# Altium integrated library Xilinx CoolRunner II.IntLib: 198 symbols (part 1 of 13)
Pins are listed as number, name and electrical type; pins without a type are passive.

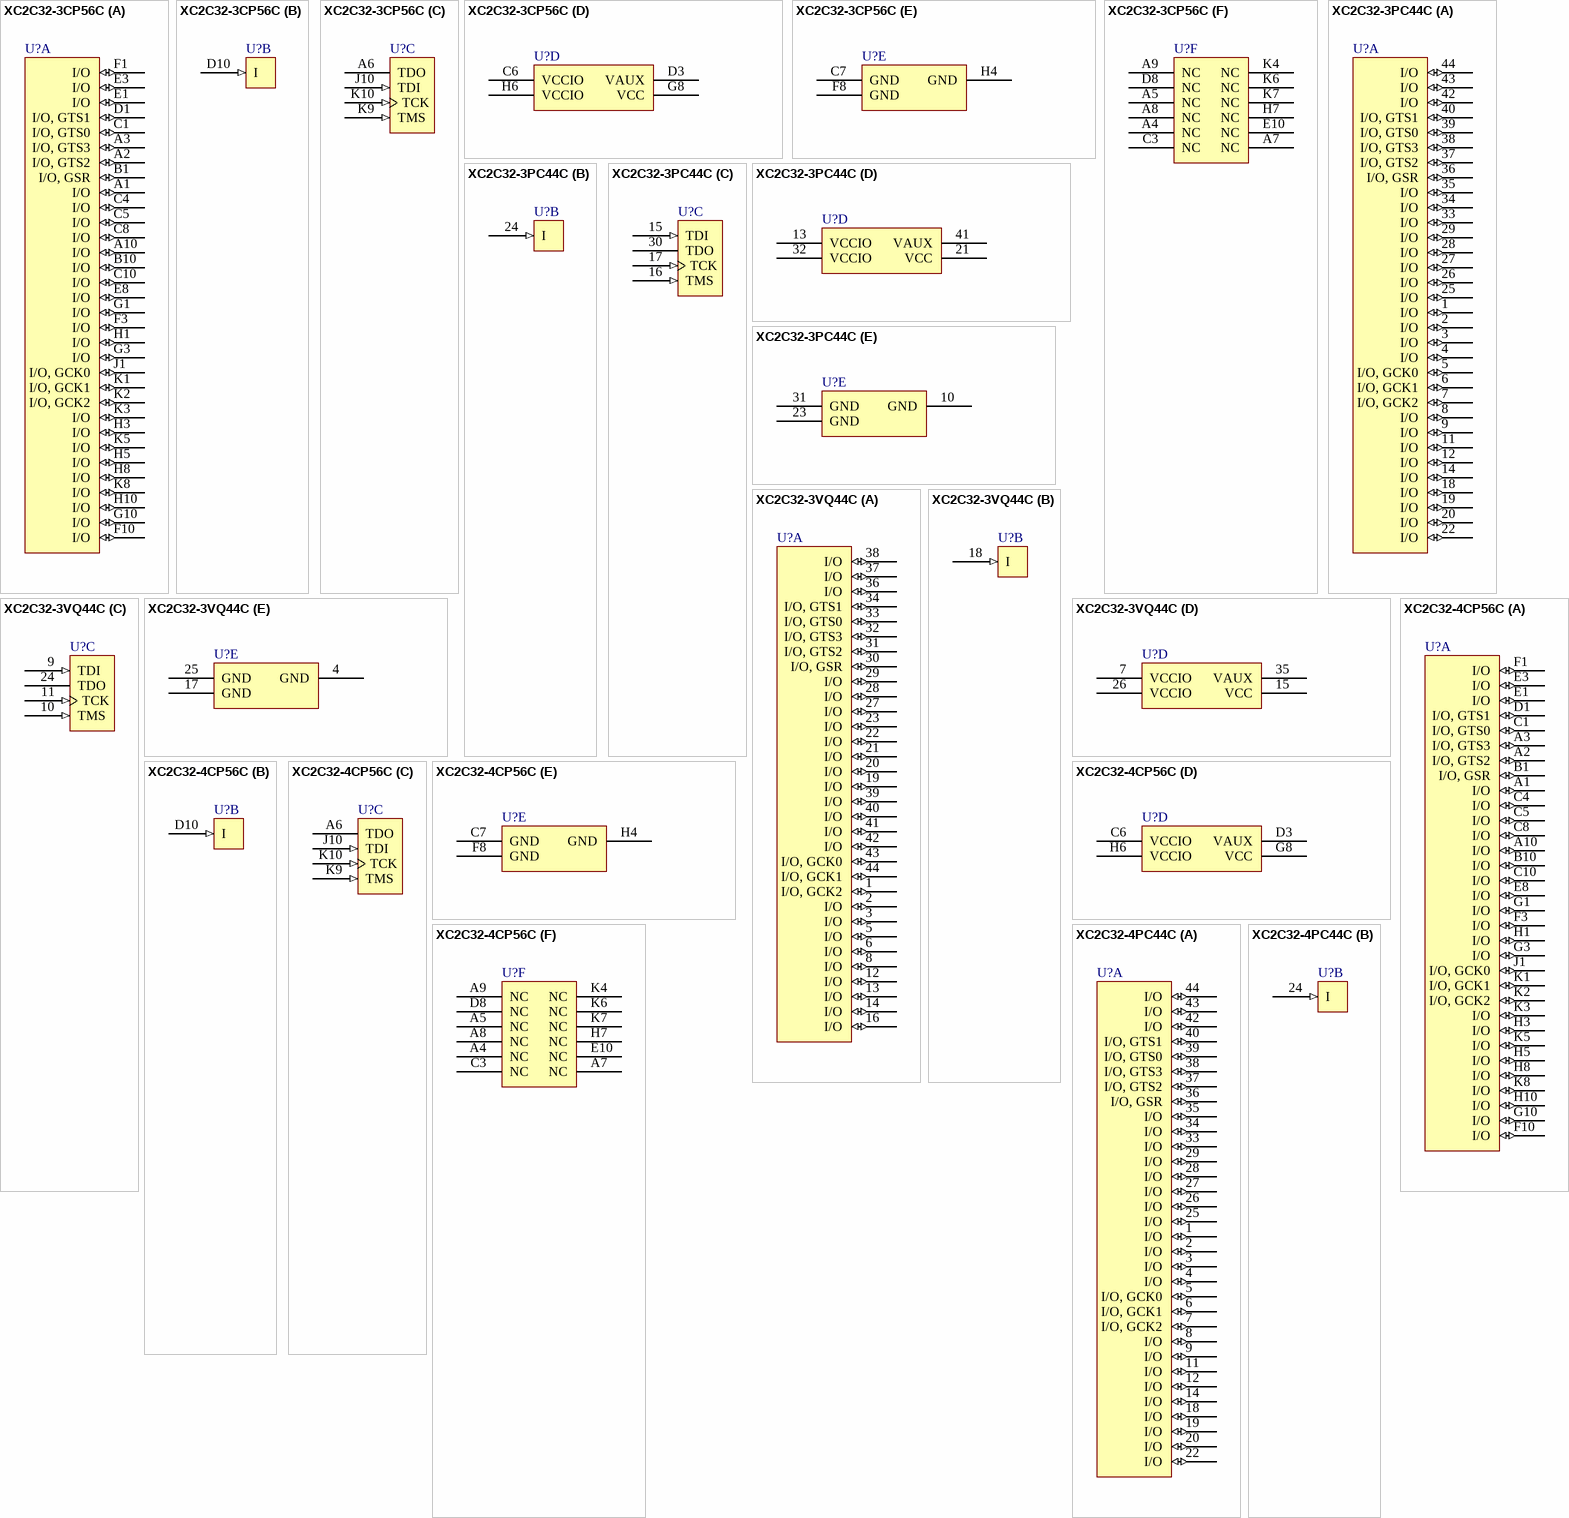
[diagram p0: symbols XC2C32-3CP56C to XC2C32-4PC44C]

## XC2C32-3CP56C
designator U?
CoolRunner-II, 1.8V, 32 Macrocell CPLD, 56-Ball CSP, Commercial Grade; DatasheetVersion: ver3.0, Nov-2005; PackageVersion: ver1.3, Jul-2008; PackageReference: CP56; PackageDescription: 56-Ball Chip Scale Ball Grid Array 0.5 mm Pitch (CP56); ComponentLink1Description: Manufacturer URL; ComponentLink1URL: http://www.xilinx.com/; ComponentLink2Description: CoolRunner-II Datasheet; ComponentLink2URL: http://www.xilinx.com/support/documentation/data_sheets/ds090.pdf; ComponentLink3Description: CP56 Package Drawing; ComponentLink3URL: http://www.xilinx.com/support/documentation/package_specs/cp56.pdf; ComponentLink4Description: CoolRunner-II Documents; ComponentLink4URL: http://www.xilinx.com/support/documentation/coolrunner-ii.htm
footprint CP56 (BGA, 56-Leads, Body 6x6mm, Pitch 0.5mm)
part A pins: A1 I/O (io), A2 I/O, GTS2 (io), A3 I/O, GTS3 (io), A10 I/O (io), B1 I/O, GSR (io), B10 I/O (io), C1 I/O, GTS0 (io), C4 I/O (io), C5 I/O (io), C8 I/O (io), C10 I/O (io), D1 I/O, GTS1 (io), E1 I/O (io), E3 I/O (io), E8 I/O (io), F1 I/O (io), F3 I/O (io), F10 I/O (io), G1 I/O (io), G3 I/O (io), G10 I/O (io), H1 I/O (io), H3 I/O (io), H5 I/O (io), H8 I/O (io), H10 I/O (io), J1 I/O, GCK0 (io), K1 I/O, GCK1 (io), K2 I/O, GCK2 (io), K3 I/O (io), K5 I/O (io), K8 I/O (io)
part B pins: D10 I (in)
part C pins: A6 TDO, J10 TDI (in), K9 TMS (in), K10 TCK (in)
part D pins: C6 VCCIO (power), D3 VAUX (power), G8 VCC (power), H6 VCCIO (power)
part E pins: C7 GND (power), F8 GND (power), H4 GND (power)
part F pins: A4 NC, A5 NC, A7 NC, A8 NC, A9 NC, C3 NC, D8 NC, E10 NC, H7 NC, K4 NC, K6 NC, K7 NC

## XC2C32-3PC44C
designator U?
CoolRunner-II, 1.8V, 32 Macrocell CPLD, 44-Pin PLCC, Commercial Grade; DatasheetVersion: ver3.0, Nov-2005; PackageVersion: ver1.2, Jun-2004; PackageReference: PC44; PackageDescription: 44-Pin Plastic Leaded Chip Carrier (PC44); Code_JEDEC: MS-047; Code_IPC: PLCC-44; ComponentLink1Description: Manufacturer URL; ComponentLink1URL: http://www.xilinx.com/; ComponentLink2Description: CoolRunner-II Datasheet; ComponentLink2URL: http://www.xilinx.com/support/documentation/data_sheets/ds090.pdf; ComponentLink3Description: PC44 Package Drawing; ComponentLink3URL: http://www.xilinx.com/support/documentation/package_specs/pc44.pdf; ComponentLink4Description: CoolRunner-II Documents; ComponentLink4URL: http://www.xilinx.com/support/documentation/coolrunner-ii.htm
footprint PC44_N (Leaded Chip Carrier, 44-Leads, Body 16.6x16.6mm, Pitch 1.27mm, IPC Medium Density)
footprint PC44_L (Leaded Chip Carrier, 44-Leads, Body 16.6x16.6mm, Pitch 1.27mm, IPC High Density)
footprint PC44_M (Leaded Chip Carrier, 44-Leads, Body 16.6x16.6mm, Pitch 1.27mm, IPC Low Density)
part A pins: 1 I/O (io), 2 I/O (io), 3 I/O (io), 4 I/O (io), 5 I/O, GCK0 (io), 6 I/O, GCK1 (io), 7 I/O, GCK2 (io), 8 I/O (io), 9 I/O (io), 11 I/O (io), 12 I/O (io), 14 I/O (io), 18 I/O (io), 19 I/O (io), 20 I/O (io), 22 I/O (io), 25 I/O (io), 26 I/O (io), 27 I/O (io), 28 I/O (io), 29 I/O (io), 33 I/O (io), 34 I/O (io), 35 I/O (io), 36 I/O, GSR (io), 37 I/O, GTS2 (io), 38 I/O, GTS3 (io), 39 I/O, GTS0 (io), 40 I/O, GTS1 (io), 42 I/O (io), 43 I/O (io), 44 I/O (io)
part B pins: 24 I (in)
part C pins: 15 TDI (in), 16 TMS (in), 17 TCK (in), 30 TDO
part D pins: 13 VCCIO (power), 21 VCC (power), 32 VCCIO (power), 41 VAUX (power)
part E pins: 10 GND (power), 23 GND (power), 31 GND (power)

## XC2C32-3VQ44C
designator U?
CoolRunner-II, 1.8V, 32 Macrocell CPLD, 44-Pin VQFP, Commercial Grade; DatasheetVersion: ver3.0, Nov-2005; PackageVersion: ver1.2, Jun-2004; PackageReference: VQ44; PackageDescription: 44-Pin Very Thin Quad Flat Pack (VQ44); Code_JEDEC: MS-026-ACB; ComponentLink1Description: Manufacturer URL; ComponentLink1URL: http://www.xilinx.com/; ComponentLink2Description: CoolRunner-II Datasheet; ComponentLink2URL: http://www.xilinx.com/support/documentation/data_sheets/ds090.pdf; ComponentLink3Description: VQ44 Package Drawing; ComponentLink3URL: http://www.xilinx.com/support/documentation/package_specs/vq44.pdf; ComponentLink4Description: CoolRunner-II Documents; ComponentLink4URL: http://www.xilinx.com/support/documentation/coolrunner-ii.htm
footprint VQ44_N (Thin QFP, 44-Leads, Body 10x10mm, Pitch 0.8mm, IPC Medium Density)
footprint VQ44_L (Thin QFP, 44-Leads, Body 10x10mm, Pitch 0.8mm, IPC High Density)
footprint VQ44_M (Thin QFP, 44-Leads, Body 10x10mm, Pitch 0.8mm, IPC Low Density)
part A pins: 1 I/O, GCK2 (io), 2 I/O (io), 3 I/O (io), 5 I/O (io), 6 I/O (io), 8 I/O (io), 12 I/O (io), 13 I/O (io), 14 I/O (io), 16 I/O (io), 19 I/O (io), 20 I/O (io), 21 I/O (io), 22 I/O (io), 23 I/O (io), 27 I/O (io), 28 I/O (io), 29 I/O (io), 30 I/O, GSR (io), 31 I/O, GTS2 (io), 32 I/O, GTS3 (io), 33 I/O, GTS0 (io), 34 I/O, GTS1 (io), 36 I/O (io), 37 I/O (io), 38 I/O (io), 39 I/O (io), 40 I/O (io), 41 I/O (io), 42 I/O (io), 43 I/O, GCK0 (io), 44 I/O, GCK1 (io)
part B pins: 18 I (in)
part C pins: 9 TDI (in), 10 TMS (in), 11 TCK (in), 24 TDO
part D pins: 7 VCCIO (power), 15 VCC (power), 26 VCCIO (power), 35 VAUX (power)
part E pins: 4 GND (power), 17 GND (power), 25 GND (power)

## XC2C32-4CP56C
designator U?
CoolRunner-II, 1.8V, 32 Macrocell CPLD, 56-Ball CSP, Commercial Grade; DatasheetVersion: ver3.0, Nov-2005; PackageVersion: ver1.3, Jul-2008; PackageReference: CP56; PackageDescription: 56-Ball Chip Scale Ball Grid Array 0.5 mm Pitch (CP56); ComponentLink1Description: Manufacturer URL; ComponentLink1URL: http://www.xilinx.com/; ComponentLink2Description: CoolRunner-II Datasheet; ComponentLink2URL: http://www.xilinx.com/support/documentation/data_sheets/ds090.pdf; ComponentLink3Description: CP56 Package Drawing; ComponentLink3URL: http://www.xilinx.com/support/documentation/package_specs/cp56.pdf; ComponentLink4Description: CoolRunner-II Documents; ComponentLink4URL: http://www.xilinx.com/support/documentation/coolrunner-ii.htm
footprint CP56 (BGA, 56-Leads, Body 6x6mm, Pitch 0.5mm)
part A pins: A1 I/O (io), A2 I/O, GTS2 (io), A3 I/O, GTS3 (io), A10 I/O (io), B1 I/O, GSR (io), B10 I/O (io), C1 I/O, GTS0 (io), C4 I/O (io), C5 I/O (io), C8 I/O (io), C10 I/O (io), D1 I/O, GTS1 (io), E1 I/O (io), E3 I/O (io), E8 I/O (io), F1 I/O (io), F3 I/O (io), F10 I/O (io), G1 I/O (io), G3 I/O (io), G10 I/O (io), H1 I/O (io), H3 I/O (io), H5 I/O (io), H8 I/O (io), H10 I/O (io), J1 I/O, GCK0 (io), K1 I/O, GCK1 (io), K2 I/O, GCK2 (io), K3 I/O (io), K5 I/O (io), K8 I/O (io)
part B pins: D10 I (in)
part C pins: A6 TDO, J10 TDI (in), K9 TMS (in), K10 TCK (in)
part D pins: C6 VCCIO (power), D3 VAUX (power), G8 VCC (power), H6 VCCIO (power)
part E pins: C7 GND (power), F8 GND (power), H4 GND (power)
part F pins: A4 NC, A5 NC, A7 NC, A8 NC, A9 NC, C3 NC, D8 NC, E10 NC, H7 NC, K4 NC, K6 NC, K7 NC

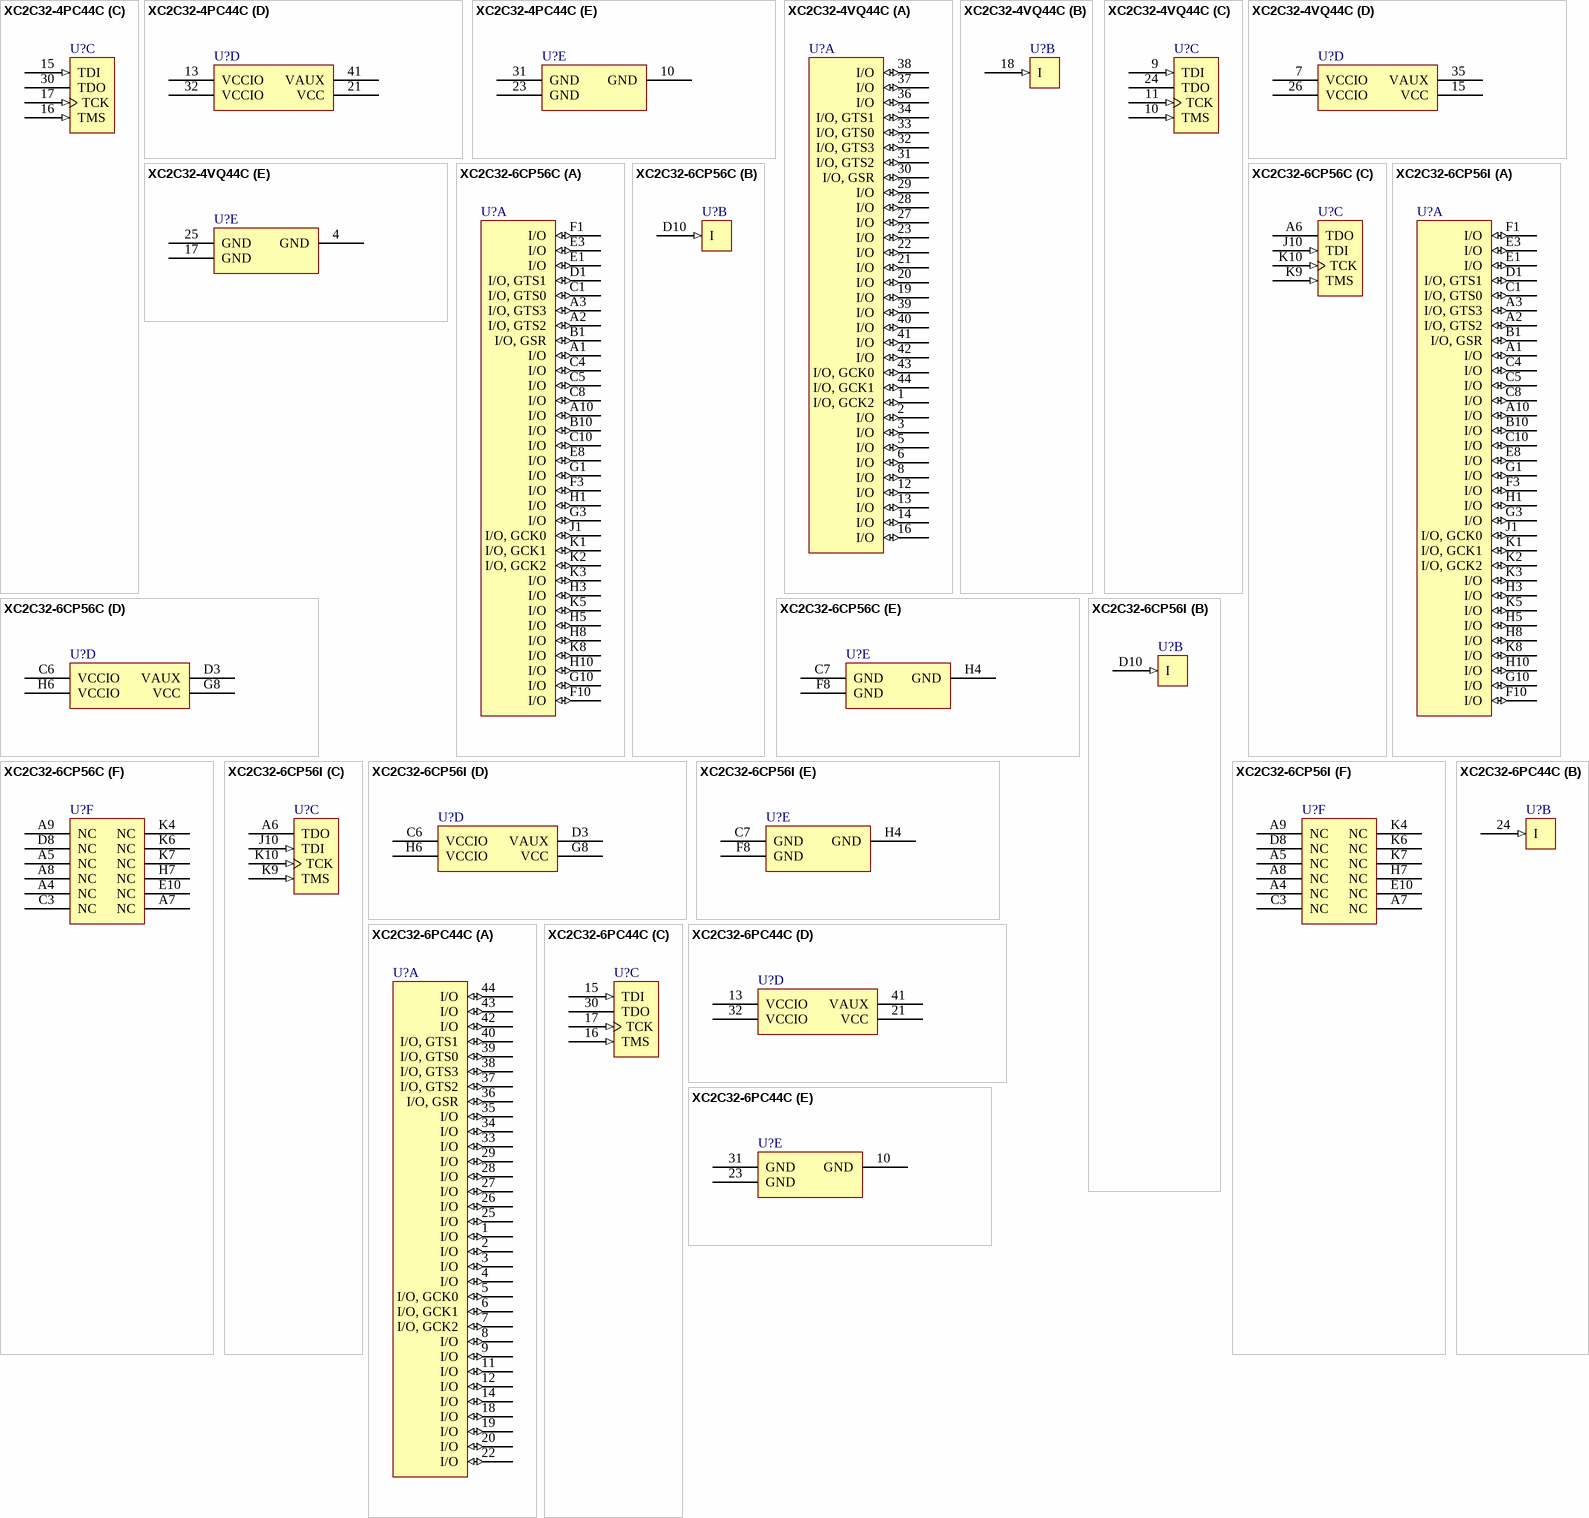
[diagram p1: symbols XC2C32-4PC44C to XC2C32-6PC44C]

## XC2C32-4PC44C
designator U?
CoolRunner-II, 1.8V, 32 Macrocell CPLD, 44-Pin PLCC, Commercial Grade; DatasheetVersion: ver3.0, Nov-2005; PackageVersion: ver1.2, Jun-2004; PackageReference: PC44; PackageDescription: 44-Pin Plastic Leaded Chip Carrier (PC44); Code_JEDEC: MS-047; Code_IPC: PLCC-44; ComponentLink1Description: Manufacturer URL; ComponentLink1URL: http://www.xilinx.com/; ComponentLink2Description: CoolRunner-II Datasheet; ComponentLink2URL: http://www.xilinx.com/support/documentation/data_sheets/ds090.pdf; ComponentLink3Description: PC44 Package Drawing; ComponentLink3URL: http://www.xilinx.com/support/documentation/package_specs/pc44.pdf; ComponentLink4Description: CoolRunner-II Documents; ComponentLink4URL: http://www.xilinx.com/support/documentation/coolrunner-ii.htm
footprint PC44_N (Leaded Chip Carrier, 44-Leads, Body 16.6x16.6mm, Pitch 1.27mm, IPC Medium Density)
footprint PC44_L (Leaded Chip Carrier, 44-Leads, Body 16.6x16.6mm, Pitch 1.27mm, IPC High Density)
footprint PC44_M (Leaded Chip Carrier, 44-Leads, Body 16.6x16.6mm, Pitch 1.27mm, IPC Low Density)
part A pins: 1 I/O (io), 2 I/O (io), 3 I/O (io), 4 I/O (io), 5 I/O, GCK0 (io), 6 I/O, GCK1 (io), 7 I/O, GCK2 (io), 8 I/O (io), 9 I/O (io), 11 I/O (io), 12 I/O (io), 14 I/O (io), 18 I/O (io), 19 I/O (io), 20 I/O (io), 22 I/O (io), 25 I/O (io), 26 I/O (io), 27 I/O (io), 28 I/O (io), 29 I/O (io), 33 I/O (io), 34 I/O (io), 35 I/O (io), 36 I/O, GSR (io), 37 I/O, GTS2 (io), 38 I/O, GTS3 (io), 39 I/O, GTS0 (io), 40 I/O, GTS1 (io), 42 I/O (io), 43 I/O (io), 44 I/O (io)
part B pins: 24 I (in)
part C pins: 15 TDI (in), 16 TMS (in), 17 TCK (in), 30 TDO
part D pins: 13 VCCIO (power), 21 VCC (power), 32 VCCIO (power), 41 VAUX (power)
part E pins: 10 GND (power), 23 GND (power), 31 GND (power)

## XC2C32-4VQ44C
designator U?
CoolRunner-II, 1.8V, 32 Macrocell CPLD, 44-Pin VQFP, Commercial Grade; DatasheetVersion: ver3.0, Nov-2005; PackageVersion: ver1.2, Jun-2004; PackageReference: VQ44; PackageDescription: 44-Pin Very Thin Quad Flat Pack (VQ44); Code_JEDEC: MS-026-ACB; ComponentLink1Description: Manufacturer URL; ComponentLink1URL: http://www.xilinx.com/; ComponentLink2Description: CoolRunner-II Datasheet; ComponentLink2URL: http://www.xilinx.com/support/documentation/data_sheets/ds090.pdf; ComponentLink3Description: VQ44 Package Drawing; ComponentLink3URL: http://www.xilinx.com/support/documentation/package_specs/vq44.pdf; ComponentLink4Description: CoolRunner-II Documents; ComponentLink4URL: http://www.xilinx.com/support/documentation/coolrunner-ii.htm
footprint VQ44_N (Thin QFP, 44-Leads, Body 10x10mm, Pitch 0.8mm, IPC Medium Density)
footprint VQ44_L (Thin QFP, 44-Leads, Body 10x10mm, Pitch 0.8mm, IPC High Density)
footprint VQ44_M (Thin QFP, 44-Leads, Body 10x10mm, Pitch 0.8mm, IPC Low Density)
part A pins: 1 I/O, GCK2 (io), 2 I/O (io), 3 I/O (io), 5 I/O (io), 6 I/O (io), 8 I/O (io), 12 I/O (io), 13 I/O (io), 14 I/O (io), 16 I/O (io), 19 I/O (io), 20 I/O (io), 21 I/O (io), 22 I/O (io), 23 I/O (io), 27 I/O (io), 28 I/O (io), 29 I/O (io), 30 I/O, GSR (io), 31 I/O, GTS2 (io), 32 I/O, GTS3 (io), 33 I/O, GTS0 (io), 34 I/O, GTS1 (io), 36 I/O (io), 37 I/O (io), 38 I/O (io), 39 I/O (io), 40 I/O (io), 41 I/O (io), 42 I/O (io), 43 I/O, GCK0 (io), 44 I/O, GCK1 (io)
part B pins: 18 I (in)
part C pins: 9 TDI (in), 10 TMS (in), 11 TCK (in), 24 TDO
part D pins: 7 VCCIO (power), 15 VCC (power), 26 VCCIO (power), 35 VAUX (power)
part E pins: 4 GND (power), 17 GND (power), 25 GND (power)

## XC2C32-6CP56C
designator U?
CoolRunner-II, 1.8V, 32 Macrocell CPLD, 56-Ball CSP, Commercial Grade; DatasheetVersion: ver3.0, Nov-2005; PackageVersion: ver1.3, Jul-2008; PackageReference: CP56; PackageDescription: 56-Ball Chip Scale Ball Grid Array 0.5 mm Pitch (CP56); ComponentLink1Description: Manufacturer URL; ComponentLink1URL: http://www.xilinx.com/; ComponentLink2Description: CoolRunner-II Datasheet; ComponentLink2URL: http://www.xilinx.com/support/documentation/data_sheets/ds090.pdf; ComponentLink3Description: CP56 Package Drawing; ComponentLink3URL: http://www.xilinx.com/support/documentation/package_specs/cp56.pdf; ComponentLink4Description: CoolRunner-II Documents; ComponentLink4URL: http://www.xilinx.com/support/documentation/coolrunner-ii.htm
footprint CP56 (BGA, 56-Leads, Body 6x6mm, Pitch 0.5mm)
part A pins: A1 I/O (io), A2 I/O, GTS2 (io), A3 I/O, GTS3 (io), A10 I/O (io), B1 I/O, GSR (io), B10 I/O (io), C1 I/O, GTS0 (io), C4 I/O (io), C5 I/O (io), C8 I/O (io), C10 I/O (io), D1 I/O, GTS1 (io), E1 I/O (io), E3 I/O (io), E8 I/O (io), F1 I/O (io), F3 I/O (io), F10 I/O (io), G1 I/O (io), G3 I/O (io), G10 I/O (io), H1 I/O (io), H3 I/O (io), H5 I/O (io), H8 I/O (io), H10 I/O (io), J1 I/O, GCK0 (io), K1 I/O, GCK1 (io), K2 I/O, GCK2 (io), K3 I/O (io), K5 I/O (io), K8 I/O (io)
part B pins: D10 I (in)
part C pins: A6 TDO, J10 TDI (in), K9 TMS (in), K10 TCK (in)
part D pins: C6 VCCIO (power), D3 VAUX (power), G8 VCC (power), H6 VCCIO (power)
part E pins: C7 GND (power), F8 GND (power), H4 GND (power)
part F pins: A4 NC, A5 NC, A7 NC, A8 NC, A9 NC, C3 NC, D8 NC, E10 NC, H7 NC, K4 NC, K6 NC, K7 NC

## XC2C32-6CP56I
designator U?
CoolRunner-II, 1.8V, 32 Macrocell CPLD, 56-Ball CSP, Industrial Grade; DatasheetVersion: ver3.0, Nov-2005; PackageVersion: ver1.3, Jul-2008; PackageReference: CP56; PackageDescription: 56-Ball Chip Scale Ball Grid Array 0.5 mm Pitch (CP56); ComponentLink1Description: Manufacturer URL; ComponentLink1URL: http://www.xilinx.com/; ComponentLink2Description: CoolRunner-II Datasheet; ComponentLink2URL: http://www.xilinx.com/support/documentation/data_sheets/ds090.pdf; ComponentLink3Description: CP56 Package Drawing; ComponentLink3URL: http://www.xilinx.com/support/documentation/package_specs/cp56.pdf; ComponentLink4Description: CoolRunner-II Documents; ComponentLink4URL: http://www.xilinx.com/support/documentation/coolrunner-ii.htm
footprint CP56 (BGA, 56-Leads, Body 6x6mm, Pitch 0.5mm)
part A pins: A1 I/O (io), A2 I/O, GTS2 (io), A3 I/O, GTS3 (io), A10 I/O (io), B1 I/O, GSR (io), B10 I/O (io), C1 I/O, GTS0 (io), C4 I/O (io), C5 I/O (io), C8 I/O (io), C10 I/O (io), D1 I/O, GTS1 (io), E1 I/O (io), E3 I/O (io), E8 I/O (io), F1 I/O (io), F3 I/O (io), F10 I/O (io), G1 I/O (io), G3 I/O (io), G10 I/O (io), H1 I/O (io), H3 I/O (io), H5 I/O (io), H8 I/O (io), H10 I/O (io), J1 I/O, GCK0 (io), K1 I/O, GCK1 (io), K2 I/O, GCK2 (io), K3 I/O (io), K5 I/O (io), K8 I/O (io)
part B pins: D10 I (in)
part C pins: A6 TDO, J10 TDI (in), K9 TMS (in), K10 TCK (in)
part D pins: C6 VCCIO (power), D3 VAUX (power), G8 VCC (power), H6 VCCIO (power)
part E pins: C7 GND (power), F8 GND (power), H4 GND (power)
part F pins: A4 NC, A5 NC, A7 NC, A8 NC, A9 NC, C3 NC, D8 NC, E10 NC, H7 NC, K4 NC, K6 NC, K7 NC

## XC2C32-6PC44C
designator U?
CoolRunner-II, 1.8V, 32 Macrocell CPLD, 44-Pin PLCC, Commercial Grade; DatasheetVersion: ver3.0, Nov-2005; PackageVersion: ver1.2, Jun-2004; PackageReference: PC44; PackageDescription: 44-Pin Plastic Leaded Chip Carrier (PC44); Code_JEDEC: MS-047; Code_IPC: PLCC-44; ComponentLink1Description: Manufacturer URL; ComponentLink1URL: http://www.xilinx.com/; ComponentLink2Description: CoolRunner-II Datasheet; ComponentLink2URL: http://www.xilinx.com/support/documentation/data_sheets/ds090.pdf; ComponentLink3Description: PC44 Package Drawing; ComponentLink3URL: http://www.xilinx.com/support/documentation/package_specs/pc44.pdf; ComponentLink4Description: CoolRunner-II Documents; ComponentLink4URL: http://www.xilinx.com/support/documentation/coolrunner-ii.htm
footprint PC44_N (Leaded Chip Carrier, 44-Leads, Body 16.6x16.6mm, Pitch 1.27mm, IPC Medium Density)
footprint PC44_L (Leaded Chip Carrier, 44-Leads, Body 16.6x16.6mm, Pitch 1.27mm, IPC High Density)
footprint PC44_M (Leaded Chip Carrier, 44-Leads, Body 16.6x16.6mm, Pitch 1.27mm, IPC Low Density)
part A pins: 1 I/O (io), 2 I/O (io), 3 I/O (io), 4 I/O (io), 5 I/O, GCK0 (io), 6 I/O, GCK1 (io), 7 I/O, GCK2 (io), 8 I/O (io), 9 I/O (io), 11 I/O (io), 12 I/O (io), 14 I/O (io), 18 I/O (io), 19 I/O (io), 20 I/O (io), 22 I/O (io), 25 I/O (io), 26 I/O (io), 27 I/O (io), 28 I/O (io), 29 I/O (io), 33 I/O (io), 34 I/O (io), 35 I/O (io), 36 I/O, GSR (io), 37 I/O, GTS2 (io), 38 I/O, GTS3 (io), 39 I/O, GTS0 (io), 40 I/O, GTS1 (io), 42 I/O (io), 43 I/O (io), 44 I/O (io)
part B pins: 24 I (in)
part C pins: 15 TDI (in), 16 TMS (in), 17 TCK (in), 30 TDO
part D pins: 13 VCCIO (power), 21 VCC (power), 32 VCCIO (power), 41 VAUX (power)
part E pins: 10 GND (power), 23 GND (power), 31 GND (power)

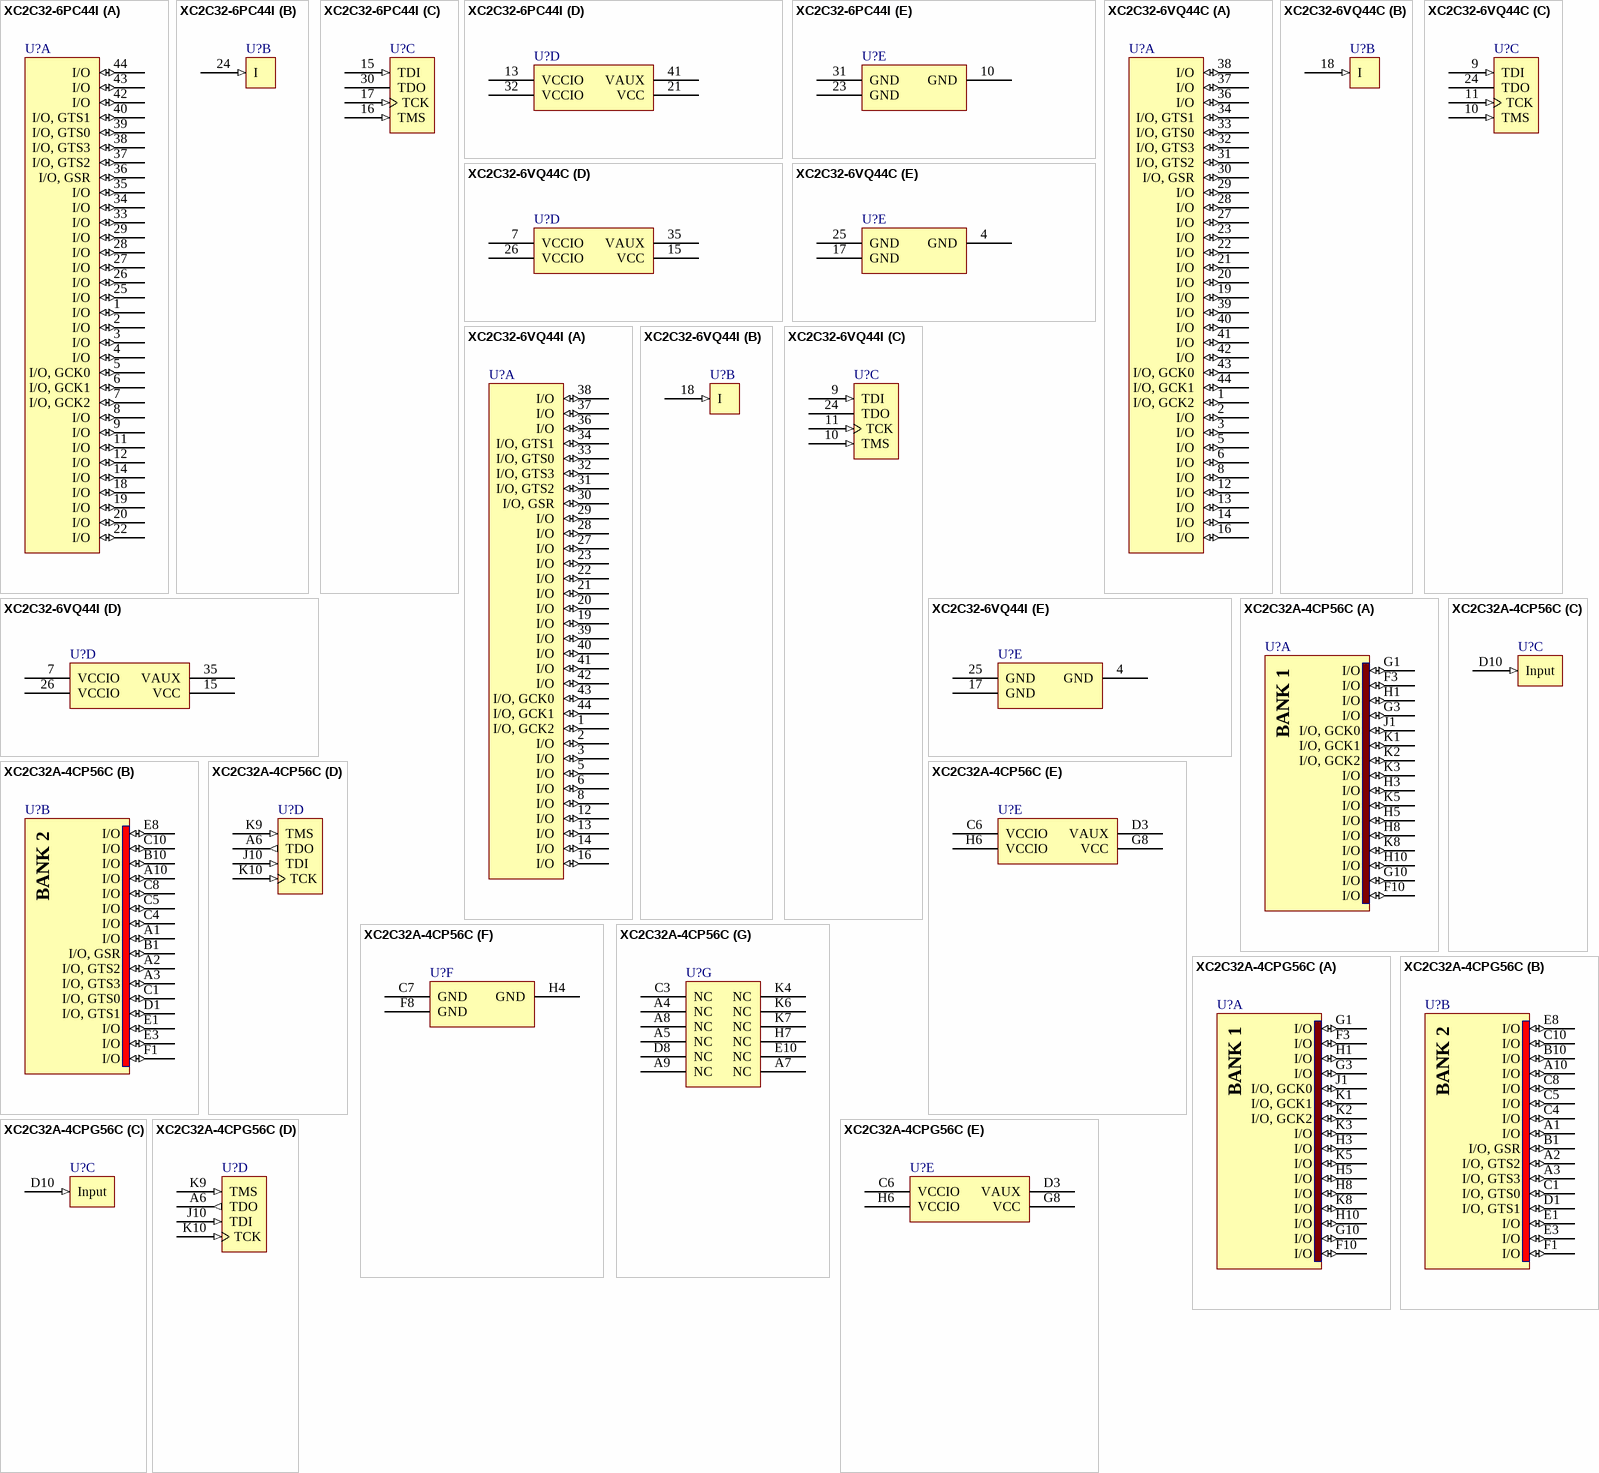
[diagram p2: symbols XC2C32-6PC44I to XC2C32A-4CPG56C]

## XC2C32-6PC44I
designator U?
CoolRunner-II, 1.8V, 32 Macrocell CPLD, 44-Pin PLCC, Industrial Grade; DatasheetVersion: ver3.0, Nov-2005; PackageVersion: ver1.2, Jun-2004; PackageReference: PC44; PackageDescription: 44-Pin Plastic Leaded Chip Carrier (PC44); Code_JEDEC: MS-047; Code_IPC: PLCC-44; ComponentLink1Description: Manufacturer URL; ComponentLink1URL: http://www.xilinx.com/; ComponentLink2Description: CoolRunner-II Datasheet; ComponentLink2URL: http://www.xilinx.com/support/documentation/data_sheets/ds090.pdf; ComponentLink3Description: PC44 Package Drawing; ComponentLink3URL: http://www.xilinx.com/support/documentation/package_specs/pc44.pdf; ComponentLink4Description: CoolRunner-II Documents; ComponentLink4URL: http://www.xilinx.com/support/documentation/coolrunner-ii.htm
footprint PC44_N (Leaded Chip Carrier, 44-Leads, Body 16.6x16.6mm, Pitch 1.27mm, IPC Medium Density)
footprint PC44_L (Leaded Chip Carrier, 44-Leads, Body 16.6x16.6mm, Pitch 1.27mm, IPC High Density)
footprint PC44_M (Leaded Chip Carrier, 44-Leads, Body 16.6x16.6mm, Pitch 1.27mm, IPC Low Density)
part A pins: 1 I/O (io), 2 I/O (io), 3 I/O (io), 4 I/O (io), 5 I/O, GCK0 (io), 6 I/O, GCK1 (io), 7 I/O, GCK2 (io), 8 I/O (io), 9 I/O (io), 11 I/O (io), 12 I/O (io), 14 I/O (io), 18 I/O (io), 19 I/O (io), 20 I/O (io), 22 I/O (io), 25 I/O (io), 26 I/O (io), 27 I/O (io), 28 I/O (io), 29 I/O (io), 33 I/O (io), 34 I/O (io), 35 I/O (io), 36 I/O, GSR (io), 37 I/O, GTS2 (io), 38 I/O, GTS3 (io), 39 I/O, GTS0 (io), 40 I/O, GTS1 (io), 42 I/O (io), 43 I/O (io), 44 I/O (io)
part B pins: 24 I (in)
part C pins: 15 TDI (in), 16 TMS (in), 17 TCK (in), 30 TDO
part D pins: 13 VCCIO (power), 21 VCC (power), 32 VCCIO (power), 41 VAUX (power)
part E pins: 10 GND (power), 23 GND (power), 31 GND (power)

## XC2C32-6VQ44C
designator U?
CoolRunner-II, 1.8V, 32 Macrocell CPLD, 44-Pin VQFP, Commercial Grade; DatasheetVersion: ver3.0, Nov-2005; PackageVersion: ver1.2, Jun-2004; PackageReference: VQ44; PackageDescription: 44-Pin Very Thin Quad Flat Pack (VQ44); Code_JEDEC: MS-026-ACB; ComponentLink1Description: Manufacturer URL; ComponentLink1URL: http://www.xilinx.com/; ComponentLink2Description: CoolRunner-II Datasheet; ComponentLink2URL: http://www.xilinx.com/support/documentation/data_sheets/ds090.pdf; ComponentLink3Description: VQ44 Package Drawing; ComponentLink3URL: http://www.xilinx.com/support/documentation/package_specs/vq44.pdf; ComponentLink4Description: CoolRunner-II Documents; ComponentLink4URL: http://www.xilinx.com/support/documentation/coolrunner-ii.htm
footprint VQ44_N (Thin QFP, 44-Leads, Body 10x10mm, Pitch 0.8mm, IPC Medium Density)
footprint VQ44_L (Thin QFP, 44-Leads, Body 10x10mm, Pitch 0.8mm, IPC High Density)
footprint VQ44_M (Thin QFP, 44-Leads, Body 10x10mm, Pitch 0.8mm, IPC Low Density)
part A pins: 1 I/O, GCK2 (io), 2 I/O (io), 3 I/O (io), 5 I/O (io), 6 I/O (io), 8 I/O (io), 12 I/O (io), 13 I/O (io), 14 I/O (io), 16 I/O (io), 19 I/O (io), 20 I/O (io), 21 I/O (io), 22 I/O (io), 23 I/O (io), 27 I/O (io), 28 I/O (io), 29 I/O (io), 30 I/O, GSR (io), 31 I/O, GTS2 (io), 32 I/O, GTS3 (io), 33 I/O, GTS0 (io), 34 I/O, GTS1 (io), 36 I/O (io), 37 I/O (io), 38 I/O (io), 39 I/O (io), 40 I/O (io), 41 I/O (io), 42 I/O (io), 43 I/O, GCK0 (io), 44 I/O, GCK1 (io)
part B pins: 18 I (in)
part C pins: 9 TDI (in), 10 TMS (in), 11 TCK (in), 24 TDO
part D pins: 7 VCCIO (power), 15 VCC (power), 26 VCCIO (power), 35 VAUX (power)
part E pins: 4 GND (power), 17 GND (power), 25 GND (power)

## XC2C32-6VQ44I
designator U?
CoolRunner-II, 1.8V, 32 Macrocell CPLD, 44-Pin VQFP, Industrial Grade; DatasheetVersion: ver3.0, Nov-2005; PackageVersion: ver1.2, Jun-2004; PackageReference: VQ44; PackageDescription: 44-Pin Very Thin Quad Flat Pack (VQ44); Code_JEDEC: MS-026-ACB; ComponentLink1Description: Manufacturer URL; ComponentLink1URL: http://www.xilinx.com/; ComponentLink2Description: CoolRunner-II Datasheet; ComponentLink2URL: http://www.xilinx.com/support/documentation/data_sheets/ds090.pdf; ComponentLink3Description: VQ44 Package Drawing; ComponentLink3URL: http://www.xilinx.com/support/documentation/package_specs/vq44.pdf; ComponentLink4Description: CoolRunner-II Documents; ComponentLink4URL: http://www.xilinx.com/support/documentation/coolrunner-ii.htm
footprint VQ44_N (Thin QFP, 44-Leads, Body 10x10mm, Pitch 0.8mm, IPC Medium Density)
footprint VQ44_L (Thin QFP, 44-Leads, Body 10x10mm, Pitch 0.8mm, IPC High Density)
footprint VQ44_M (Thin QFP, 44-Leads, Body 10x10mm, Pitch 0.8mm, IPC Low Density)
part A pins: 1 I/O, GCK2 (io), 2 I/O (io), 3 I/O (io), 5 I/O (io), 6 I/O (io), 8 I/O (io), 12 I/O (io), 13 I/O (io), 14 I/O (io), 16 I/O (io), 19 I/O (io), 20 I/O (io), 21 I/O (io), 22 I/O (io), 23 I/O (io), 27 I/O (io), 28 I/O (io), 29 I/O (io), 30 I/O, GSR (io), 31 I/O, GTS2 (io), 32 I/O, GTS3 (io), 33 I/O, GTS0 (io), 34 I/O, GTS1 (io), 36 I/O (io), 37 I/O (io), 38 I/O (io), 39 I/O (io), 40 I/O (io), 41 I/O (io), 42 I/O (io), 43 I/O, GCK0 (io), 44 I/O, GCK1 (io)
part B pins: 18 I (in)
part C pins: 9 TDI (in), 10 TMS (in), 11 TCK (in), 24 TDO
part D pins: 7 VCCIO (power), 15 VCC (power), 26 VCCIO (power), 35 VAUX (power)
part E pins: 4 GND (power), 17 GND (power), 25 GND (power)

## XC2C32A-4CP56C
designator U?
CoolRunner-II 1.8V, 32 Macrocell CPLD, 33 User I/Os, 56-Ball CSP, Commercial Grade; DatasheetVersion: ver2.1, Nov-2008; PackageVersion: ver1.3, Jul-2008; PackageReference: CP56; PackageDescription: 56-Ball Chip Scale Ball Grid Array 0.5 mm Pitch (CP56); ComponentLink1Description: Manufacturer URL; ComponentLink1URL: http://www.xilinx.com/; ComponentLink2Description: XC2C32A Datasheet; ComponentLink2URL: http://www.xilinx.com/support/documentation/data_sheets/ds310.pdf; ComponentLink3Description: CP56 Package Drawing; ComponentLink3URL: http://www.xilinx.com/support/documentation/package_specs/cp56.pdf; ComponentLink4Description: CoolRunner-II Documents; ComponentLink4URL: http://www.xilinx.com/support/documentation/coolrunner-ii.htm
footprint CP56 (BGA, 56-Leads, Body 6x6mm, Pitch 0.5mm)
part A pins: F3 I/O (io), F10 I/O (io), G1 I/O (io), G3 I/O (io), G10 I/O (io), H1 I/O (io), H3 I/O (io), H5 I/O (io), H8 I/O (io), H10 I/O (io), J1 I/O, GCK0 (io), K1 I/O, GCK1 (io), K2 I/O, GCK2 (io), K3 I/O (io), K5 I/O (io), K8 I/O (io)
part B pins: A1 I/O (io), A2 I/O, GTS2 (io), A3 I/O, GTS3 (io), A10 I/O (io), B1 I/O, GSR (io), B10 I/O (io), C1 I/O, GTS0 (io), C4 I/O (io), C5 I/O (io), C8 I/O (io), C10 I/O (io), D1 I/O, GTS1 (io), E1 I/O (io), E3 I/O (io), E8 I/O (io), F1 I/O (io)
part C pins: D10 Input (in)
part D pins: A6 TDO (out), J10 TDI (in), K9 TMS (in), K10 TCK (in)
part E pins: C6 VCCIO (power), D3 VAUX (power), G8 VCC (power), H6 VCCIO (power)
part F pins: C7 GND (power), F8 GND (power), H4 GND (power)
part G pins: A4 NC, A5 NC, A7 NC, A8 NC, A9 NC, C3 NC, D8 NC, E10 NC, H7 NC, K4 NC, K6 NC, K7 NC
part A text: BANK 1
part B text: BANK 2

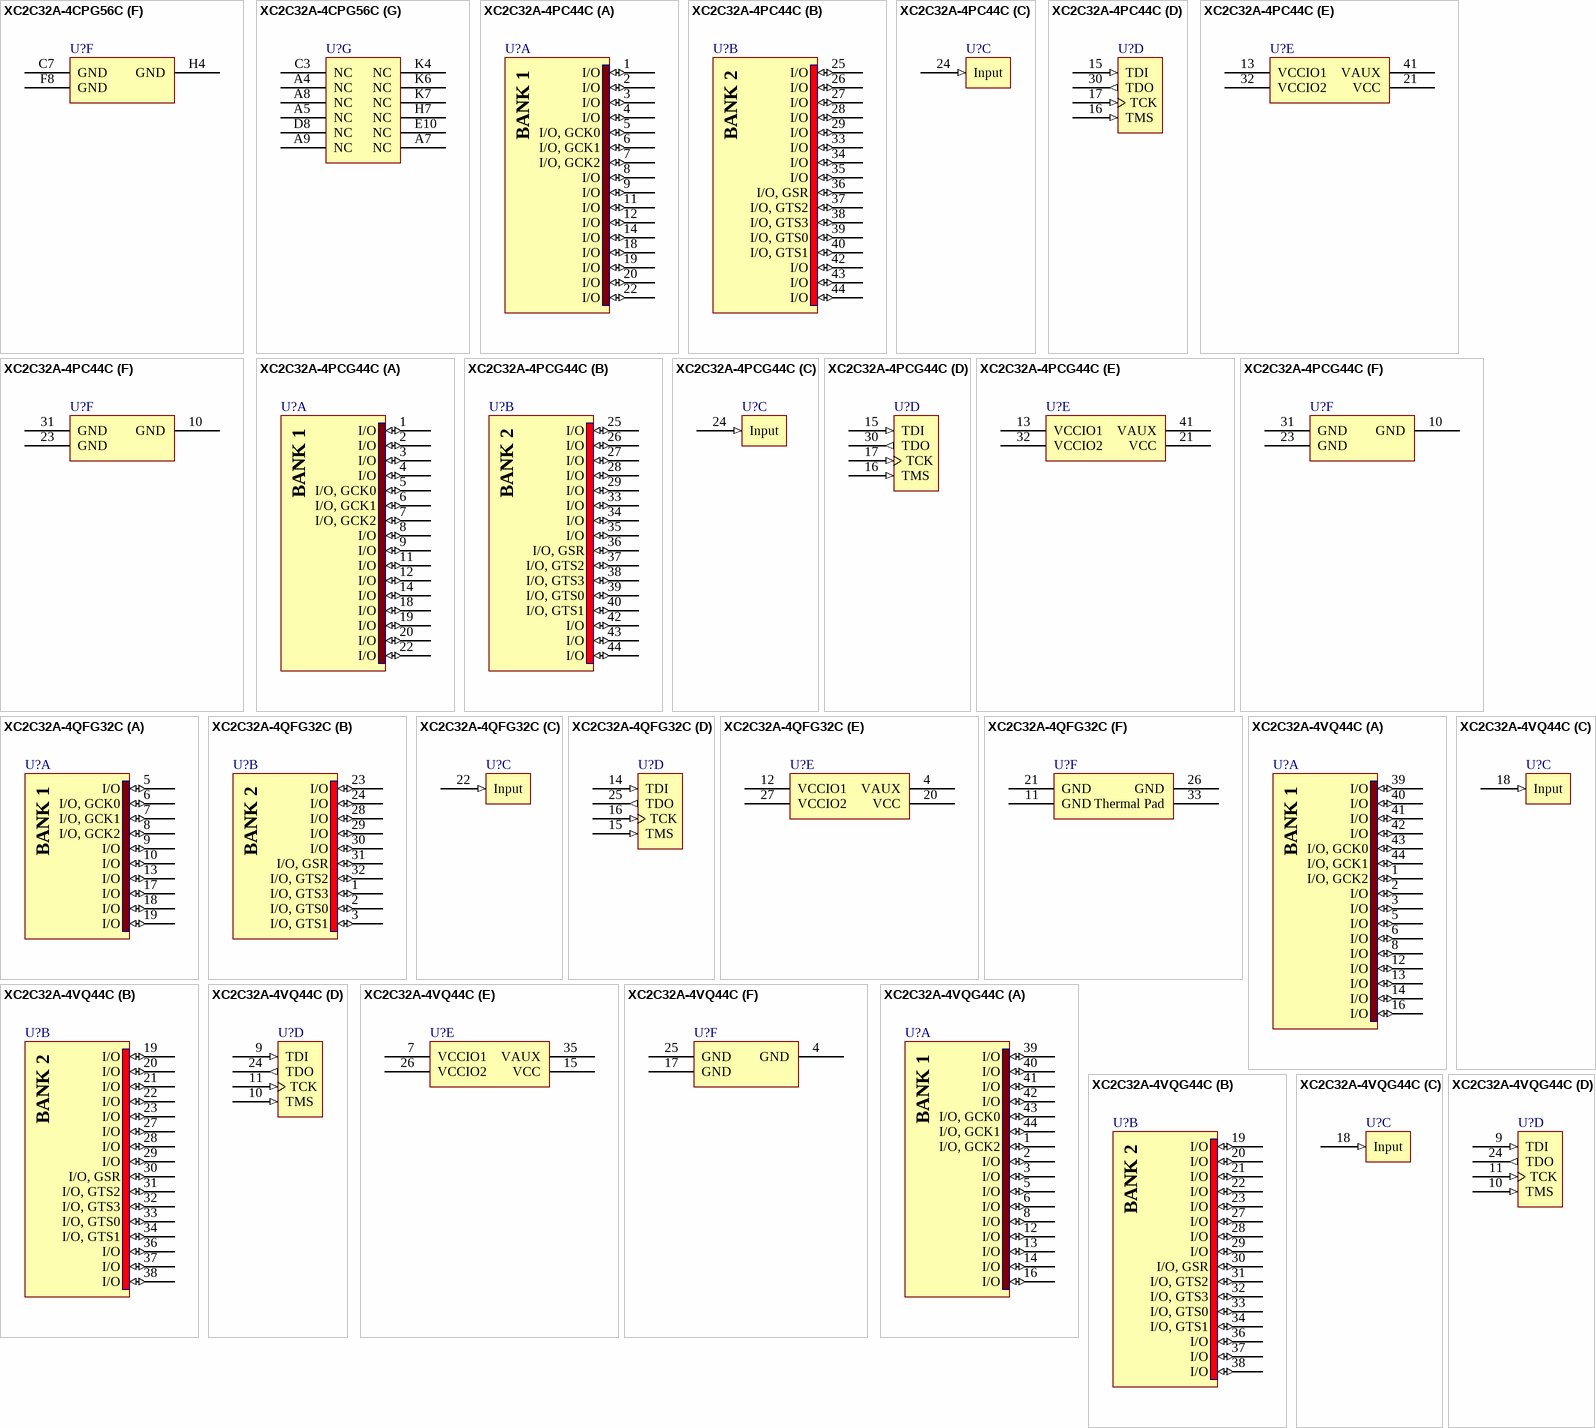
[diagram p3: symbols XC2C32A-4CPG56C to XC2C32A-4VQG44C]

## XC2C32A-4CPG56C
designator U?
CoolRunner-II 1.8V, 32 Macrocell CPLD, 33 User I/Os, 56-Ball CSP, Commercial Grade, Pb-Free; DatasheetVersion: ver2.1, Nov-2008; PackageVersion: ver1.3, Jul-2008; PackageReference: CPG56; PackageDescription: 56-Ball Chip Scale Ball Grid Array 0.5 mm Pitch (CPG56) - Pb-Free; ComponentLink1Description: Manufacturer URL; ComponentLink1URL: http://www.xilinx.com/; ComponentLink2Description: XC2C32A Datasheet; ComponentLink2URL: http://www.xilinx.com/support/documentation/data_sheets/ds310.pdf; ComponentLink3Description: CPG56 Package Drawing; ComponentLink3URL: http://www.xilinx.com/support/documentation/package_specs/cp56.pdf; ComponentLink4Description: CoolRunner-II Documents; ComponentLink4URL: http://www.xilinx.com/support/documentation/coolrunner-ii.htm
footprint CPG56 (BGA, 56-Leads, Body 6x6mm, Pitch 0.5mm)
part A pins: F3 I/O (io), F10 I/O (io), G1 I/O (io), G3 I/O (io), G10 I/O (io), H1 I/O (io), H3 I/O (io), H5 I/O (io), H8 I/O (io), H10 I/O (io), J1 I/O, GCK0 (io), K1 I/O, GCK1 (io), K2 I/O, GCK2 (io), K3 I/O (io), K5 I/O (io), K8 I/O (io)
part B pins: A1 I/O (io), A2 I/O, GTS2 (io), A3 I/O, GTS3 (io), A10 I/O (io), B1 I/O, GSR (io), B10 I/O (io), C1 I/O, GTS0 (io), C4 I/O (io), C5 I/O (io), C8 I/O (io), C10 I/O (io), D1 I/O, GTS1 (io), E1 I/O (io), E3 I/O (io), E8 I/O (io), F1 I/O (io)
part C pins: D10 Input (in)
part D pins: A6 TDO (out), J10 TDI (in), K9 TMS (in), K10 TCK (in)
part E pins: C6 VCCIO (power), D3 VAUX (power), G8 VCC (power), H6 VCCIO (power)
part F pins: C7 GND (power), F8 GND (power), H4 GND (power)
part G pins: A4 NC, A5 NC, A7 NC, A8 NC, A9 NC, C3 NC, D8 NC, E10 NC, H7 NC, K4 NC, K6 NC, K7 NC
part A text: BANK 1
part B text: BANK 2

## XC2C32A-4PC44C
designator U?
CoolRunner-II, 1.8V, 32 Macrocell CPLD, 44-Pin PLCC, Commercial Grade; DatasheetVersion: ver2.0, Mar-2007; PackageVersion: ver1.2, Jun-2004; PackageReference: PC44; PackageDescription: 44-Pin Plastic Leaded Chip Carrier (PC44); Code_JEDEC: MS-047; Code_IPC: PLCC-44; ComponentLink1Description: Manufacturer URL; ComponentLink1URL: http://www.xilinx.com/; ComponentLink2Description: XC2C32A Datasheet; ComponentLink2URL: http://www.xilinx.com/support/documentation/data_sheets/ds310.pdf; ComponentLink3Description: PC44 Package Drawing; ComponentLink3URL: http://www.xilinx.com/support/documentation/package_specs/pc44.pdf; ComponentLink4Description: CoolRunner-II Documents; ComponentLink4URL: http://www.xilinx.com/support/documentation/coolrunner-ii.htm
footprint PC44_N (Leaded Chip Carrier, 44-Leads, Body 16.6x16.6mm, Pitch 1.27mm, IPC Medium Density)
footprint PC44_L (Leaded Chip Carrier, 44-Leads, Body 16.6x16.6mm, Pitch 1.27mm, IPC High Density)
footprint PC44_M (Leaded Chip Carrier, 44-Leads, Body 16.6x16.6mm, Pitch 1.27mm, IPC Low Density)
part A pins: 1 I/O (io), 2 I/O (io), 3 I/O (io), 4 I/O (io), 5 I/O, GCK0 (io), 6 I/O, GCK1 (io), 7 I/O, GCK2 (io), 8 I/O (io), 9 I/O (io), 11 I/O (io), 12 I/O (io), 14 I/O (io), 18 I/O (io), 19 I/O (io), 20 I/O (io), 22 I/O (io)
part B pins: 25 I/O (io), 26 I/O (io), 27 I/O (io), 28 I/O (io), 29 I/O (io), 33 I/O (io), 34 I/O (io), 35 I/O (io), 36 I/O, GSR (io), 37 I/O, GTS2 (io), 38 I/O, GTS3 (io), 39 I/O, GTS0 (io), 40 I/O, GTS1 (io), 42 I/O (io), 43 I/O (io), 44 I/O (io)
part C pins: 24 Input (in)
part D pins: 15 TDI (in), 16 TMS (in), 17 TCK (in), 30 TDO (out)
part E pins: 13 VCCIO1 (power), 21 VCC (power), 32 VCCIO2 (power), 41 VAUX (power)
part F pins: 10 GND (power), 23 GND (power), 31 GND (power)
part A text: BANK 1
part B text: BANK 2

## XC2C32A-4PCG44C
designator U?
CoolRunner-II, 1.8V, 32 Macrocell CPLD, 44-Pin PLCC, Pb-Free, Commercial Grade; DatasheetVersion: ver2.0, Mar-2007; PackageVersion: ver1.2, Jun-2004; PackageReference: PCG44; PackageDescription: 44-Pin Plastic Leaded Chip Carrier (PCG44) - Pb-Free; Code_JEDEC: MS-047; Code_IPC: PLCC-44; ComponentLink1Description: Manufacturer URL; ComponentLink1URL: http://www.xilinx.com/; ComponentLink2Description: XC2C32A Datasheet; ComponentLink2URL: http://www.xilinx.com/support/documentation/data_sheets/ds310.pdf; ComponentLink3Description: PCG44 Package Drawing; ComponentLink3URL: http://www.xilinx.com/support/documentation/package_specs/pc44.pdf; ComponentLink4Description: CoolRunner-II Documents; ComponentLink4URL: http://www.xilinx.com/support/documentation/coolrunner-ii.htm
footprint PCG44_N (Leaded Chip Carrier, 44-Leads, Body 16.6x16.6mm, Pitch 1.27mm, IPC Medium Density)
footprint PCG44_L (Leaded Chip Carrier, 44-Leads, Body 16.6x16.6mm, Pitch 1.27mm, IPC High Density)
footprint PCG44_M (Leaded Chip Carrier, 44-Leads, Body 16.6x16.6mm, Pitch 1.27mm, IPC Low Density)
part A pins: 1 I/O (io), 2 I/O (io), 3 I/O (io), 4 I/O (io), 5 I/O, GCK0 (io), 6 I/O, GCK1 (io), 7 I/O, GCK2 (io), 8 I/O (io), 9 I/O (io), 11 I/O (io), 12 I/O (io), 14 I/O (io), 18 I/O (io), 19 I/O (io), 20 I/O (io), 22 I/O (io)
part B pins: 25 I/O (io), 26 I/O (io), 27 I/O (io), 28 I/O (io), 29 I/O (io), 33 I/O (io), 34 I/O (io), 35 I/O (io), 36 I/O, GSR (io), 37 I/O, GTS2 (io), 38 I/O, GTS3 (io), 39 I/O, GTS0 (io), 40 I/O, GTS1 (io), 42 I/O (io), 43 I/O (io), 44 I/O (io)
part C pins: 24 Input (in)
part D pins: 15 TDI (in), 16 TMS (in), 17 TCK (in), 30 TDO (out)
part E pins: 13 VCCIO1 (power), 21 VCC (power), 32 VCCIO2 (power), 41 VAUX (power)
part F pins: 10 GND (power), 23 GND (power), 31 GND (power)
part A text: BANK 1
part B text: BANK 2

## XC2C32A-4QFG32C
designator U?
CoolRunner-II 1.8V, 32 Macrocell CPLD, 21 User I/Os, 32-Pin QFNL, Commercial Grade, Pb-Free; DatasheetVersion: ver2.1, Nov-2008; PackageVersion: ver1.0, Aug-2004; PackageReference: QFG32; PackageDescription: 32-Pin Quad Flat No-Lead (QFG32) - Pb-Free; Code_JEDEC: MO-220; ComponentLink1Description: Manufacturer URL; ComponentLink1URL: http://www.xilinx.com/; ComponentLink2Description: XC2C32A Datasheet; ComponentLink2URL: http://www.xilinx.com/support/documentation/data_sheets/ds310.pdf; ComponentLink3Description: QFG32 Package Drawing; ComponentLink3URL: http://www.xilinx.com/support/documentation/package_specs/qfg32.pdf; ComponentLink4Description: CoolRunner-II Documents; ComponentLink4URL: http://www.xilinx.com/support/documentation/coolrunner-ii.htm
footprint QFG32_N (QFN, 32-Leads, Body 5x5mm, Pitch 0.5mm, Thermal Pad 3.3x3.3mm, IPC Medium Density)
footprint QFG32_L (QFN, 32-Leads, Body 5x5mm, Pitch 0.5mm, Thermal Pad 3.3x3.3mm, IPC High Density)
footprint QFG32_M (QFN, 32-Leads, Body 5x5mm, Pitch 0.5mm, Thermal Pad 3.3x3.3mm, IPC Low Density)
part A pins: 5 I/O (io), 6 I/O, GCK0 (io), 7 I/O, GCK1 (io), 8 I/O, GCK2 (io), 9 I/O (io), 10 I/O (io), 13 I/O (io), 17 I/O (io), 18 I/O (io), 19 I/O (io)
part B pins: 1 I/O, GTS3 (io), 2 I/O, GTS0 (io), 3 I/O, GTS1 (io), 23 I/O (io), 24 I/O (io), 28 I/O (io), 29 I/O (io), 30 I/O (io), 31 I/O, GSR (io), 32 I/O, GTS2 (io)
part C pins: 22 Input (in)
part D pins: 14 TDI (in), 15 TMS (in), 16 TCK (in), 25 TDO (out)
part E pins: 4 VAUX (power), 12 VCCIO1 (power), 20 VCC (power), 27 VCCIO2 (power)
part F pins: 11 GND (power), 21 GND (power), 26 GND (power), 33 Thermal Pad (power)
part A text: BANK 1
part B text: BANK 2

## XC2C32A-4VQ44C
designator U?
CoolRunner-II 1.8V, 32 Macrocell CPLD, 33 User I/Os, 44-Pin VQFP, Commercial Grade; DatasheetVersion: ver2.1, Nov-2008; PackageVersion: ver1.2, Jun-2004; PackageReference: VQ44; PackageDescription: 44-Pin Very Thin Quad Flat Pack (VQ44); Code_JEDEC: MS-026-ACB; ComponentLink1Description: Manufacturer URL; ComponentLink1URL: http://www.xilinx.com/; ComponentLink2Description: XC2C32A Datasheet; ComponentLink2URL: http://www.xilinx.com/support/documentation/data_sheets/ds310.pdf; ComponentLink3Description: VQ44 Package Drawing; ComponentLink3URL: http://www.xilinx.com/support/documentation/package_specs/vq44.pdf; ComponentLink4Description: CoolRunner-II Documents; ComponentLink4URL: http://www.xilinx.com/support/documentation/coolrunner-ii.htm
footprint VQ44_N (Thin QFP, 44-Leads, Body 10x10mm, Pitch 0.8mm, IPC Medium Density)
footprint VQ44_L (Thin QFP, 44-Leads, Body 10x10mm, Pitch 0.8mm, IPC High Density)
footprint VQ44_M (Thin QFP, 44-Leads, Body 10x10mm, Pitch 0.8mm, IPC Low Density)
part A pins: 1 I/O, GCK2 (io), 2 I/O (io), 3 I/O (io), 5 I/O (io), 6 I/O (io), 8 I/O (io), 12 I/O (io), 13 I/O (io), 14 I/O (io), 16 I/O (io), 39 I/O (io), 40 I/O (io), 41 I/O (io), 42 I/O (io), 43 I/O, GCK0 (io), 44 I/O, GCK1 (io)
part B pins: 19 I/O (io), 20 I/O (io), 21 I/O (io), 22 I/O (io), 23 I/O (io), 27 I/O (io), 28 I/O (io), 29 I/O (io), 30 I/O, GSR (io), 31 I/O, GTS2 (io), 32 I/O, GTS3 (io), 33 I/O, GTS0 (io), 34 I/O, GTS1 (io), 36 I/O (io), 37 I/O (io), 38 I/O (io)
part C pins: 18 Input (in)
part D pins: 9 TDI (in), 10 TMS (in), 11 TCK (in), 24 TDO (out)
part E pins: 7 VCCIO1 (power), 15 VCC (power), 26 VCCIO2 (power), 35 VAUX (power)
part F pins: 4 GND (power), 17 GND (power), 25 GND (power)
part A text: BANK 1
part B text: BANK 2

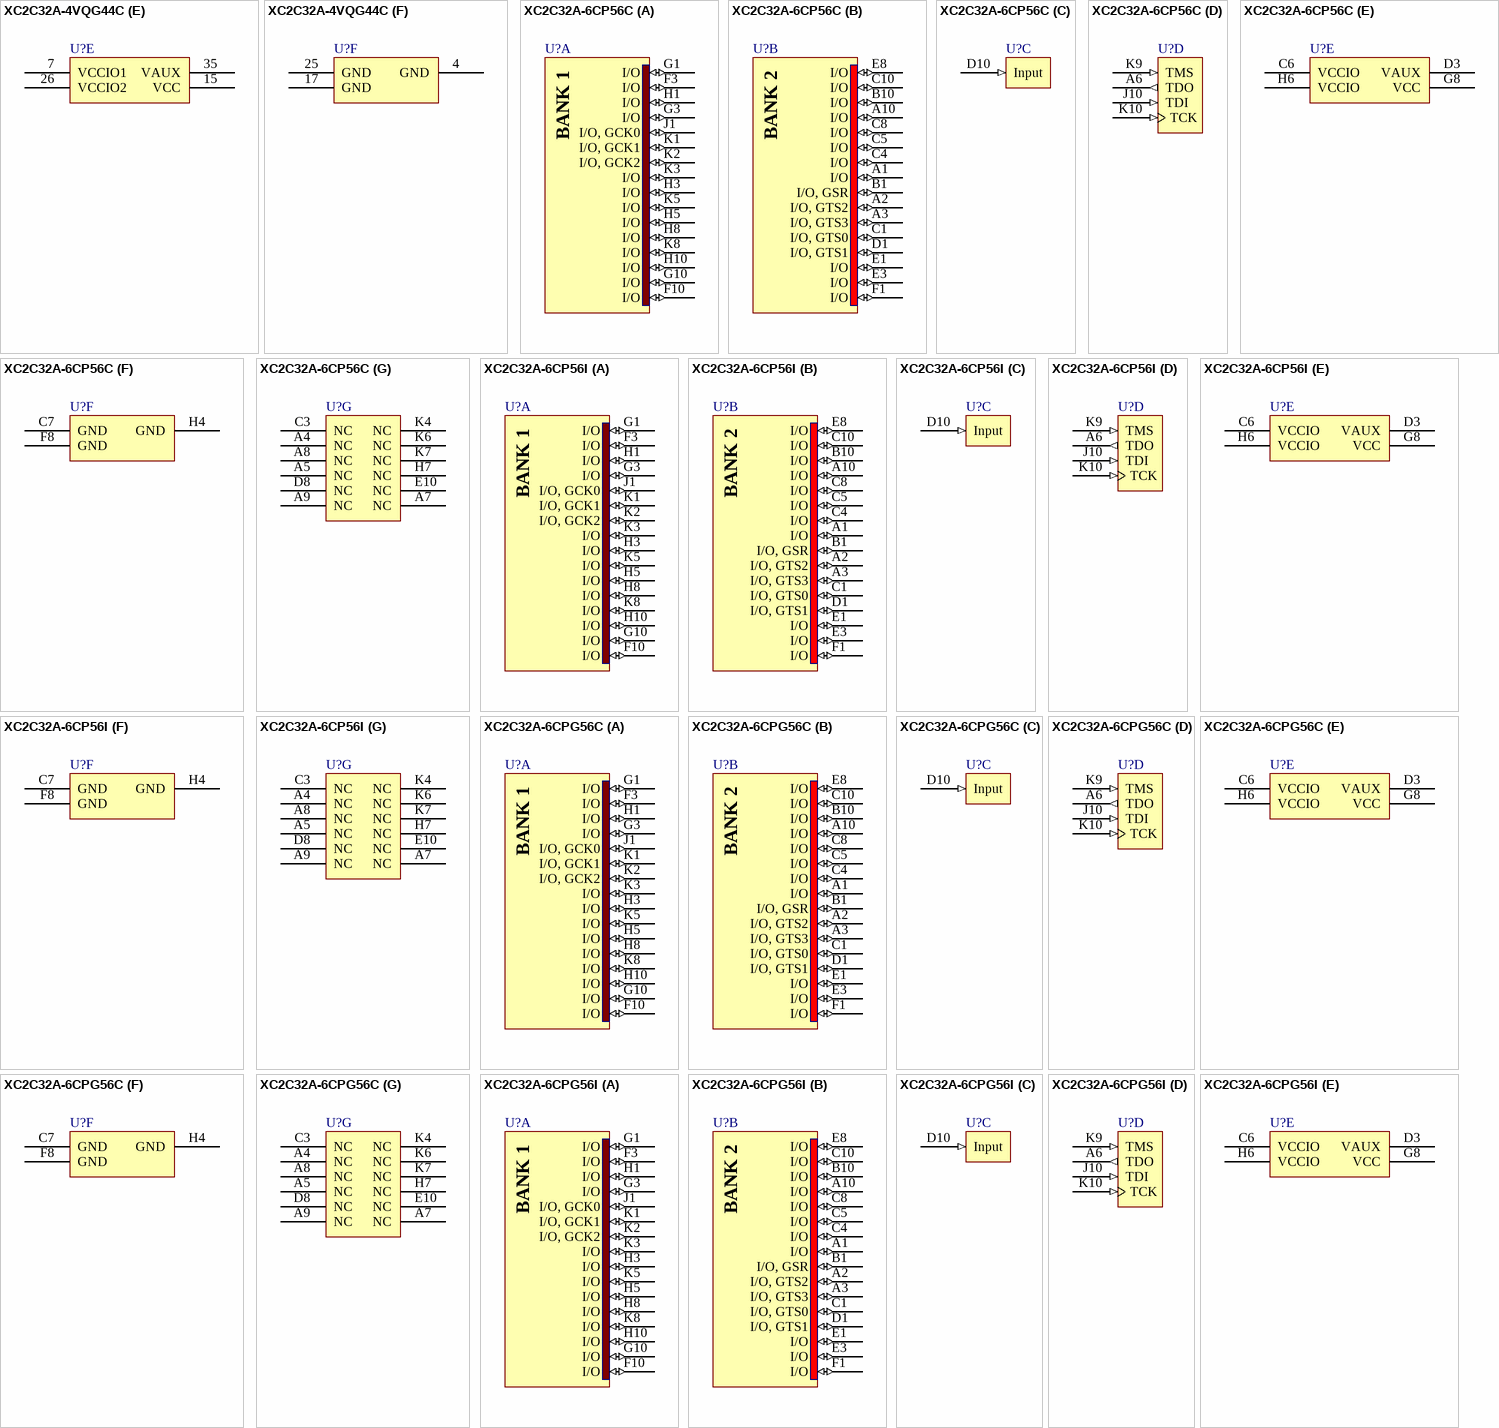
[diagram p4: symbols XC2C32A-4VQG44C to XC2C32A-6CPG56I]

## XC2C32A-4VQG44C
designator U?
CoolRunner-II 1.8V, 32 Macrocell CPLD, 33 User I/Os, 44-Pin VQFP, Commercial Grade, Pb-Free; DatasheetVersion: ver2.1, Nov-2008; PackageVersion: ver1.2, Jun-2004; PackageReference: VQG44; PackageDescription: 44-Pin Very Thin Quad Flat Pack (VQG44) - Pb-Free; Code_JEDEC: MS-026-ACB; ComponentLink1Description: Manufacturer URL; ComponentLink1URL: http://www.xilinx.com/; ComponentLink2Description: XC2C32A Datasheet; ComponentLink2URL: http://www.xilinx.com/support/documentation/data_sheets/ds310.pdf; ComponentLink3Description: VQG44 Package Drawing; ComponentLink3URL: http://www.xilinx.com/support/documentation/package_specs/vq44.pdf; ComponentLink4Description: CoolRunner-II Documents; ComponentLink4URL: http://www.xilinx.com/support/documentation/coolrunner-ii.htm
footprint VQG44_N (Thin QFP, 44-Leads, Body 10x10mm, Pitch 0.8mm, IPC Medium Density)
footprint VQG44_L (Thin QFP, 44-Leads, Body 10x10mm, Pitch 0.8mm, IPC High Density)
footprint VQG44_M (Thin QFP, 44-Leads, Body 10x10mm, Pitch 0.8mm, IPC Low Density)
part A pins: 1 I/O, GCK2 (io), 2 I/O (io), 3 I/O (io), 5 I/O (io), 6 I/O (io), 8 I/O (io), 12 I/O (io), 13 I/O (io), 14 I/O (io), 16 I/O (io), 39 I/O (io), 40 I/O (io), 41 I/O (io), 42 I/O (io), 43 I/O, GCK0 (io), 44 I/O, GCK1 (io)
part B pins: 19 I/O (io), 20 I/O (io), 21 I/O (io), 22 I/O (io), 23 I/O (io), 27 I/O (io), 28 I/O (io), 29 I/O (io), 30 I/O, GSR (io), 31 I/O, GTS2 (io), 32 I/O, GTS3 (io), 33 I/O, GTS0 (io), 34 I/O, GTS1 (io), 36 I/O (io), 37 I/O (io), 38 I/O (io)
part C pins: 18 Input (in)
part D pins: 9 TDI (in), 10 TMS (in), 11 TCK (in), 24 TDO (out)
part E pins: 7 VCCIO1 (power), 15 VCC (power), 26 VCCIO2 (power), 35 VAUX (power)
part F pins: 4 GND (power), 17 GND (power), 25 GND (power)
part A text: BANK 1
part B text: BANK 2

## XC2C32A-6CP56C
designator U?
CoolRunner-II 1.8V, 32 Macrocell CPLD, 33 User I/Os, 56-Ball CSP, Commercial Grade; DatasheetVersion: ver2.1, Nov-2008; PackageVersion: ver1.3, Jul-2008; PackageReference: CP56; PackageDescription: 56-Ball Chip Scale Ball Grid Array 0.5 mm Pitch (CP56); ComponentLink1Description: Manufacturer URL; ComponentLink1URL: http://www.xilinx.com/; ComponentLink2Description: XC2C32A Datasheet; ComponentLink2URL: http://www.xilinx.com/support/documentation/data_sheets/ds310.pdf; ComponentLink3Description: CP56 Package Drawing; ComponentLink3URL: http://www.xilinx.com/support/documentation/package_specs/cp56.pdf; ComponentLink4Description: CoolRunner-II Documents; ComponentLink4URL: http://www.xilinx.com/support/documentation/coolrunner-ii.htm
footprint CP56 (BGA, 56-Leads, Body 6x6mm, Pitch 0.5mm)
part A pins: F3 I/O (io), F10 I/O (io), G1 I/O (io), G3 I/O (io), G10 I/O (io), H1 I/O (io), H3 I/O (io), H5 I/O (io), H8 I/O (io), H10 I/O (io), J1 I/O, GCK0 (io), K1 I/O, GCK1 (io), K2 I/O, GCK2 (io), K3 I/O (io), K5 I/O (io), K8 I/O (io)
part B pins: A1 I/O (io), A2 I/O, GTS2 (io), A3 I/O, GTS3 (io), A10 I/O (io), B1 I/O, GSR (io), B10 I/O (io), C1 I/O, GTS0 (io), C4 I/O (io), C5 I/O (io), C8 I/O (io), C10 I/O (io), D1 I/O, GTS1 (io), E1 I/O (io), E3 I/O (io), E8 I/O (io), F1 I/O (io)
part C pins: D10 Input (in)
part D pins: A6 TDO (out), J10 TDI (in), K9 TMS (in), K10 TCK (in)
part E pins: C6 VCCIO (power), D3 VAUX (power), G8 VCC (power), H6 VCCIO (power)
part F pins: C7 GND (power), F8 GND (power), H4 GND (power)
part G pins: A4 NC, A5 NC, A7 NC, A8 NC, A9 NC, C3 NC, D8 NC, E10 NC, H7 NC, K4 NC, K6 NC, K7 NC
part A text: BANK 1
part B text: BANK 2

## XC2C32A-6CP56I
designator U?
CoolRunner-II 1.8V, 32 Macrocell CPLD, 33 User I/Os, 56-Ball CSP, Industrial Grade; DatasheetVersion: ver2.1, Nov-2008; PackageVersion: ver1.3, Jul-2008; PackageReference: CP56; PackageDescription: 56-Ball Chip Scale Ball Grid Array 0.5 mm Pitch (CP56); ComponentLink1Description: Manufacturer URL; ComponentLink1URL: http://www.xilinx.com/; ComponentLink2Description: XC2C32A Datasheet; ComponentLink2URL: http://www.xilinx.com/support/documentation/data_sheets/ds310.pdf; ComponentLink3Description: CP56 Package Drawing; ComponentLink3URL: http://www.xilinx.com/support/documentation/package_specs/cp56.pdf; ComponentLink4Description: CoolRunner-II Documents; ComponentLink4URL: http://www.xilinx.com/support/documentation/coolrunner-ii.htm
footprint CP56 (BGA, 56-Leads, Body 6x6mm, Pitch 0.5mm)
part A pins: F3 I/O (io), F10 I/O (io), G1 I/O (io), G3 I/O (io), G10 I/O (io), H1 I/O (io), H3 I/O (io), H5 I/O (io), H8 I/O (io), H10 I/O (io), J1 I/O, GCK0 (io), K1 I/O, GCK1 (io), K2 I/O, GCK2 (io), K3 I/O (io), K5 I/O (io), K8 I/O (io)
part B pins: A1 I/O (io), A2 I/O, GTS2 (io), A3 I/O, GTS3 (io), A10 I/O (io), B1 I/O, GSR (io), B10 I/O (io), C1 I/O, GTS0 (io), C4 I/O (io), C5 I/O (io), C8 I/O (io), C10 I/O (io), D1 I/O, GTS1 (io), E1 I/O (io), E3 I/O (io), E8 I/O (io), F1 I/O (io)
part C pins: D10 Input (in)
part D pins: A6 TDO (out), J10 TDI (in), K9 TMS (in), K10 TCK (in)
part E pins: C6 VCCIO (power), D3 VAUX (power), G8 VCC (power), H6 VCCIO (power)
part F pins: C7 GND (power), F8 GND (power), H4 GND (power)
part G pins: A4 NC, A5 NC, A7 NC, A8 NC, A9 NC, C3 NC, D8 NC, E10 NC, H7 NC, K4 NC, K6 NC, K7 NC
part A text: BANK 1
part B text: BANK 2

## XC2C32A-6CPG56C
designator U?
CoolRunner-II 1.8V, 32 Macrocell CPLD, 33 User I/Os, 56-Ball CSP, Commercial Grade, Pb-Free; DatasheetVersion: ver2.1, Nov-2008; PackageVersion: ver1.3, Jul-2008; PackageReference: CPG56; PackageDescription: 56-Ball Chip Scale Ball Grid Array 0.5 mm Pitch (CPG56) - Pb-Free; ComponentLink1Description: Manufacturer URL; ComponentLink1URL: http://www.xilinx.com/; ComponentLink2Description: XC2C32A Datasheet; ComponentLink2URL: http://www.xilinx.com/support/documentation/data_sheets/ds310.pdf; ComponentLink3Description: CPG56 Package Drawing; ComponentLink3URL: http://www.xilinx.com/support/documentation/package_specs/cp56.pdf; ComponentLink4Description: CoolRunner-II Documents; ComponentLink4URL: http://www.xilinx.com/support/documentation/coolrunner-ii.htm
footprint CPG56 (BGA, 56-Leads, Body 6x6mm, Pitch 0.5mm)
part A pins: F3 I/O (io), F10 I/O (io), G1 I/O (io), G3 I/O (io), G10 I/O (io), H1 I/O (io), H3 I/O (io), H5 I/O (io), H8 I/O (io), H10 I/O (io), J1 I/O, GCK0 (io), K1 I/O, GCK1 (io), K2 I/O, GCK2 (io), K3 I/O (io), K5 I/O (io), K8 I/O (io)
part B pins: A1 I/O (io), A2 I/O, GTS2 (io), A3 I/O, GTS3 (io), A10 I/O (io), B1 I/O, GSR (io), B10 I/O (io), C1 I/O, GTS0 (io), C4 I/O (io), C5 I/O (io), C8 I/O (io), C10 I/O (io), D1 I/O, GTS1 (io), E1 I/O (io), E3 I/O (io), E8 I/O (io), F1 I/O (io)
part C pins: D10 Input (in)
part D pins: A6 TDO (out), J10 TDI (in), K9 TMS (in), K10 TCK (in)
part E pins: C6 VCCIO (power), D3 VAUX (power), G8 VCC (power), H6 VCCIO (power)
part F pins: C7 GND (power), F8 GND (power), H4 GND (power)
part G pins: A4 NC, A5 NC, A7 NC, A8 NC, A9 NC, C3 NC, D8 NC, E10 NC, H7 NC, K4 NC, K6 NC, K7 NC
part A text: BANK 1
part B text: BANK 2

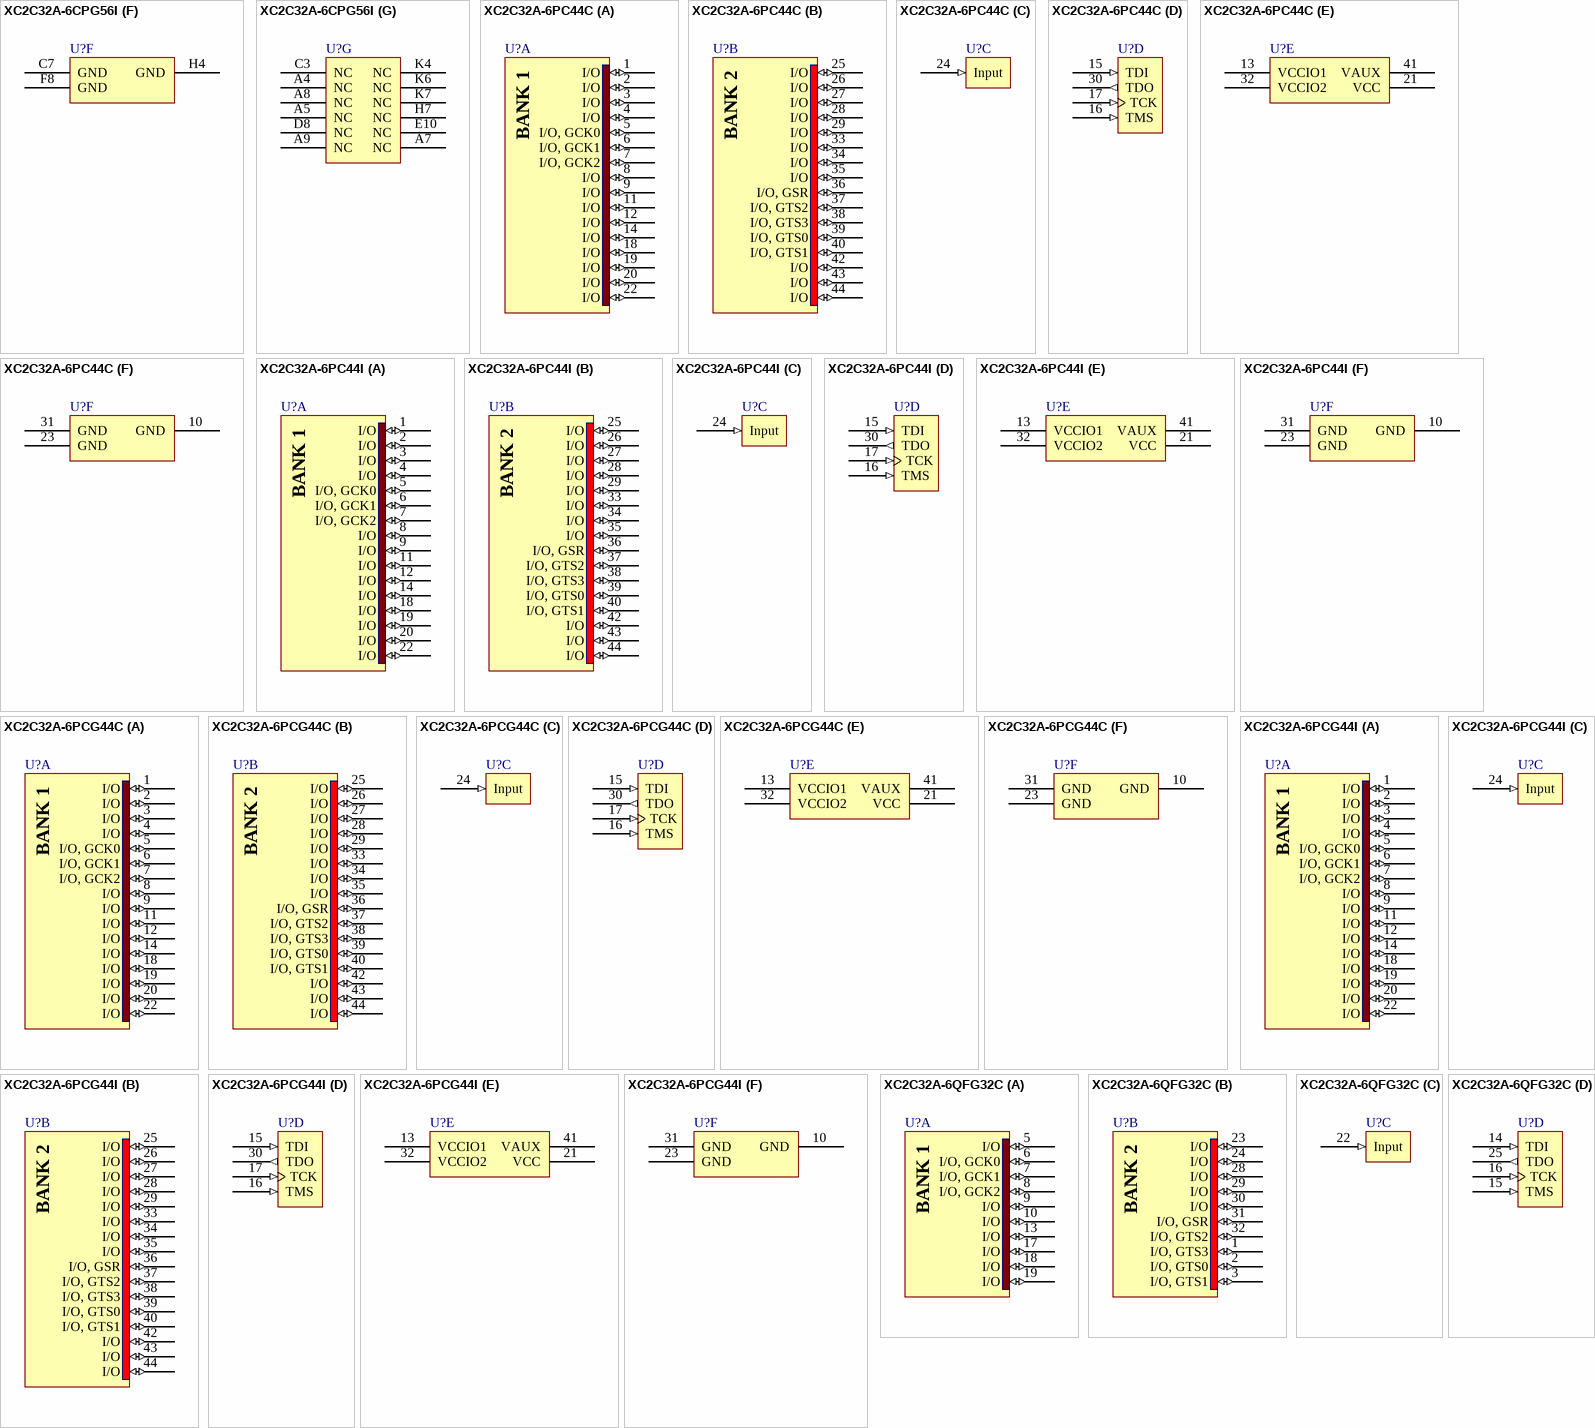
[diagram p5: symbols XC2C32A-6CPG56I to XC2C32A-6QFG32C]

## XC2C32A-6CPG56I
designator U?
CoolRunner-II 1.8V, 32 Macrocell CPLD, 33 User I/Os, 56-Ball CSP, Industrial Grade, Pb-Free; DatasheetVersion: ver2.1, Nov-2008; PackageVersion: ver1.3, Jul-2008; PackageReference: CPG56; PackageDescription: 56-Ball Chip Scale Ball Grid Array 0.5 mm Pitch (CPG56) - Pb-Free; ComponentLink1Description: Manufacturer URL; ComponentLink1URL: http://www.xilinx.com/; ComponentLink2Description: XC2C32A Datasheet; ComponentLink2URL: http://www.xilinx.com/support/documentation/data_sheets/ds310.pdf; ComponentLink3Description: CPG56 Package Drawing; ComponentLink3URL: http://www.xilinx.com/support/documentation/package_specs/cp56.pdf; ComponentLink4Description: CoolRunner-II Documents; ComponentLink4URL: http://www.xilinx.com/support/documentation/coolrunner-ii.htm
footprint CPG56 (BGA, 56-Leads, Body 6x6mm, Pitch 0.5mm)
part A pins: F3 I/O (io), F10 I/O (io), G1 I/O (io), G3 I/O (io), G10 I/O (io), H1 I/O (io), H3 I/O (io), H5 I/O (io), H8 I/O (io), H10 I/O (io), J1 I/O, GCK0 (io), K1 I/O, GCK1 (io), K2 I/O, GCK2 (io), K3 I/O (io), K5 I/O (io), K8 I/O (io)
part B pins: A1 I/O (io), A2 I/O, GTS2 (io), A3 I/O, GTS3 (io), A10 I/O (io), B1 I/O, GSR (io), B10 I/O (io), C1 I/O, GTS0 (io), C4 I/O (io), C5 I/O (io), C8 I/O (io), C10 I/O (io), D1 I/O, GTS1 (io), E1 I/O (io), E3 I/O (io), E8 I/O (io), F1 I/O (io)
part C pins: D10 Input (in)
part D pins: A6 TDO (out), J10 TDI (in), K9 TMS (in), K10 TCK (in)
part E pins: C6 VCCIO (power), D3 VAUX (power), G8 VCC (power), H6 VCCIO (power)
part F pins: C7 GND (power), F8 GND (power), H4 GND (power)
part G pins: A4 NC, A5 NC, A7 NC, A8 NC, A9 NC, C3 NC, D8 NC, E10 NC, H7 NC, K4 NC, K6 NC, K7 NC
part A text: BANK 1
part B text: BANK 2

## XC2C32A-6PC44C
designator U?
CoolRunner-II, 1.8V, 32 Macrocell CPLD, 44-Pin PLCC, Commercial Grade; DatasheetVersion: ver2.0, Mar-2007; PackageVersion: ver1.2, Jun-2004; PackageReference: PC44; PackageDescription: 44-Pin Plastic Leaded Chip Carrier (PC44); Code_JEDEC: MS-047; Code_IPC: PLCC-44; ComponentLink1Description: Manufacturer URL; ComponentLink1URL: http://www.xilinx.com/; ComponentLink2Description: XC2C32A Datasheet; ComponentLink2URL: http://www.xilinx.com/support/documentation/data_sheets/ds310.pdf; ComponentLink3Description: PC44 Package Drawing; ComponentLink3URL: http://www.xilinx.com/support/documentation/package_specs/pc44.pdf; ComponentLink4Description: CoolRunner-II Documents; ComponentLink4URL: http://www.xilinx.com/support/documentation/coolrunner-ii.htm
footprint PC44_N (Leaded Chip Carrier, 44-Leads, Body 16.6x16.6mm, Pitch 1.27mm, IPC Medium Density)
footprint PC44_L (Leaded Chip Carrier, 44-Leads, Body 16.6x16.6mm, Pitch 1.27mm, IPC High Density)
footprint PC44_M (Leaded Chip Carrier, 44-Leads, Body 16.6x16.6mm, Pitch 1.27mm, IPC Low Density)
part A pins: 1 I/O (io), 2 I/O (io), 3 I/O (io), 4 I/O (io), 5 I/O, GCK0 (io), 6 I/O, GCK1 (io), 7 I/O, GCK2 (io), 8 I/O (io), 9 I/O (io), 11 I/O (io), 12 I/O (io), 14 I/O (io), 18 I/O (io), 19 I/O (io), 20 I/O (io), 22 I/O (io)
part B pins: 25 I/O (io), 26 I/O (io), 27 I/O (io), 28 I/O (io), 29 I/O (io), 33 I/O (io), 34 I/O (io), 35 I/O (io), 36 I/O, GSR (io), 37 I/O, GTS2 (io), 38 I/O, GTS3 (io), 39 I/O, GTS0 (io), 40 I/O, GTS1 (io), 42 I/O (io), 43 I/O (io), 44 I/O (io)
part C pins: 24 Input (in)
part D pins: 15 TDI (in), 16 TMS (in), 17 TCK (in), 30 TDO (out)
part E pins: 13 VCCIO1 (power), 21 VCC (power), 32 VCCIO2 (power), 41 VAUX (power)
part F pins: 10 GND (power), 23 GND (power), 31 GND (power)
part A text: BANK 1
part B text: BANK 2

## XC2C32A-6PC44I
designator U?
CoolRunner-II, 1.8V, 32 Macrocell CPLD, 44-Pin PLCC, Industrial Grade; DatasheetVersion: ver2.0, Mar-2007; PackageVersion: ver1.2, Jun-2004; PackageReference: PC44; PackageDescription: 44-Pin Plastic Leaded Chip Carrier (PC44); Code_JEDEC: MS-047; Code_IPC: PLCC-44; ComponentLink1Description: Manufacturer URL; ComponentLink1URL: http://www.xilinx.com/; ComponentLink2Description: XC2C32A Datasheet; ComponentLink2URL: http://www.xilinx.com/support/documentation/data_sheets/ds310.pdf; ComponentLink3Description: PC44 Package Drawing; ComponentLink3URL: http://www.xilinx.com/support/documentation/package_specs/pc44.pdf; ComponentLink4Description: CoolRunner-II Documents; ComponentLink4URL: http://www.xilinx.com/support/documentation/coolrunner-ii.htm
footprint PC44_N (Leaded Chip Carrier, 44-Leads, Body 16.6x16.6mm, Pitch 1.27mm, IPC Medium Density)
footprint PC44_L (Leaded Chip Carrier, 44-Leads, Body 16.6x16.6mm, Pitch 1.27mm, IPC High Density)
footprint PC44_M (Leaded Chip Carrier, 44-Leads, Body 16.6x16.6mm, Pitch 1.27mm, IPC Low Density)
part A pins: 1 I/O (io), 2 I/O (io), 3 I/O (io), 4 I/O (io), 5 I/O, GCK0 (io), 6 I/O, GCK1 (io), 7 I/O, GCK2 (io), 8 I/O (io), 9 I/O (io), 11 I/O (io), 12 I/O (io), 14 I/O (io), 18 I/O (io), 19 I/O (io), 20 I/O (io), 22 I/O (io)
part B pins: 25 I/O (io), 26 I/O (io), 27 I/O (io), 28 I/O (io), 29 I/O (io), 33 I/O (io), 34 I/O (io), 35 I/O (io), 36 I/O, GSR (io), 37 I/O, GTS2 (io), 38 I/O, GTS3 (io), 39 I/O, GTS0 (io), 40 I/O, GTS1 (io), 42 I/O (io), 43 I/O (io), 44 I/O (io)
part C pins: 24 Input (in)
part D pins: 15 TDI (in), 16 TMS (in), 17 TCK (in), 30 TDO (out)
part E pins: 13 VCCIO1 (power), 21 VCC (power), 32 VCCIO2 (power), 41 VAUX (power)
part F pins: 10 GND (power), 23 GND (power), 31 GND (power)
part A text: BANK 1
part B text: BANK 2

## XC2C32A-6PCG44C
designator U?
CoolRunner-II, 1.8V, 32 Macrocell CPLD, 44-Pin PLCC, Pb-Free, Commercial Grade; DatasheetVersion: ver2.0, Mar-2007; PackageVersion: ver1.2, Jun-2004; PackageReference: PCG44; PackageDescription: 44-Pin Plastic Leaded Chip Carrier (PCG44) - Pb-Free; Code_JEDEC: MS-047; Code_IPC: PLCC-44; ComponentLink1Description: Manufacturer URL; ComponentLink1URL: http://www.xilinx.com/; ComponentLink2Description: XC2C32A Datasheet; ComponentLink2URL: http://www.xilinx.com/support/documentation/data_sheets/ds310.pdf; ComponentLink3Description: PCG44 Package Drawing; ComponentLink3URL: http://www.xilinx.com/support/documentation/package_specs/pc44.pdf; ComponentLink4Description: CoolRunner-II Documents; ComponentLink4URL: http://www.xilinx.com/support/documentation/coolrunner-ii.htm
footprint PCG44_N (Leaded Chip Carrier, 44-Leads, Body 16.6x16.6mm, Pitch 1.27mm, IPC Medium Density)
footprint PCG44_L (Leaded Chip Carrier, 44-Leads, Body 16.6x16.6mm, Pitch 1.27mm, IPC High Density)
footprint PCG44_M (Leaded Chip Carrier, 44-Leads, Body 16.6x16.6mm, Pitch 1.27mm, IPC Low Density)
part A pins: 1 I/O (io), 2 I/O (io), 3 I/O (io), 4 I/O (io), 5 I/O, GCK0 (io), 6 I/O, GCK1 (io), 7 I/O, GCK2 (io), 8 I/O (io), 9 I/O (io), 11 I/O (io), 12 I/O (io), 14 I/O (io), 18 I/O (io), 19 I/O (io), 20 I/O (io), 22 I/O (io)
part B pins: 25 I/O (io), 26 I/O (io), 27 I/O (io), 28 I/O (io), 29 I/O (io), 33 I/O (io), 34 I/O (io), 35 I/O (io), 36 I/O, GSR (io), 37 I/O, GTS2 (io), 38 I/O, GTS3 (io), 39 I/O, GTS0 (io), 40 I/O, GTS1 (io), 42 I/O (io), 43 I/O (io), 44 I/O (io)
part C pins: 24 Input (in)
part D pins: 15 TDI (in), 16 TMS (in), 17 TCK (in), 30 TDO (out)
part E pins: 13 VCCIO1 (power), 21 VCC (power), 32 VCCIO2 (power), 41 VAUX (power)
part F pins: 10 GND (power), 23 GND (power), 31 GND (power)
part A text: BANK 1
part B text: BANK 2

## XC2C32A-6PCG44I
designator U?
CoolRunner-II, 1.8V, 32 Macrocell CPLD, 44-Pin PLCC, Pb-Free, Industrial Grade; DatasheetVersion: ver2.0, Mar-2007; PackageVersion: ver1.2, Jun-2004; PackageReference: PCG44; PackageDescription: 44-Pin Plastic Leaded Chip Carrier (PCG44) - Pb-Free; Code_JEDEC: MS-047; Code_IPC: PLCC-44; ComponentLink1Description: Manufacturer URL; ComponentLink1URL: http://www.xilinx.com/; ComponentLink2Description: XC2C32A Datasheet; ComponentLink2URL: http://www.xilinx.com/support/documentation/data_sheets/ds310.pdf; ComponentLink3Description: PCG44 Package Drawing; ComponentLink3URL: http://www.xilinx.com/support/documentation/package_specs/pc44.pdf; ComponentLink4Description: CoolRunner-II Documents; ComponentLink4URL: http://www.xilinx.com/support/documentation/coolrunner-ii.htm
footprint PCG44_N (Leaded Chip Carrier, 44-Leads, Body 16.6x16.6mm, Pitch 1.27mm, IPC Medium Density)
footprint PCG44_L (Leaded Chip Carrier, 44-Leads, Body 16.6x16.6mm, Pitch 1.27mm, IPC High Density)
footprint PCG44_M (Leaded Chip Carrier, 44-Leads, Body 16.6x16.6mm, Pitch 1.27mm, IPC Low Density)
part A pins: 1 I/O (io), 2 I/O (io), 3 I/O (io), 4 I/O (io), 5 I/O, GCK0 (io), 6 I/O, GCK1 (io), 7 I/O, GCK2 (io), 8 I/O (io), 9 I/O (io), 11 I/O (io), 12 I/O (io), 14 I/O (io), 18 I/O (io), 19 I/O (io), 20 I/O (io), 22 I/O (io)
part B pins: 25 I/O (io), 26 I/O (io), 27 I/O (io), 28 I/O (io), 29 I/O (io), 33 I/O (io), 34 I/O (io), 35 I/O (io), 36 I/O, GSR (io), 37 I/O, GTS2 (io), 38 I/O, GTS3 (io), 39 I/O, GTS0 (io), 40 I/O, GTS1 (io), 42 I/O (io), 43 I/O (io), 44 I/O (io)
part C pins: 24 Input (in)
part D pins: 15 TDI (in), 16 TMS (in), 17 TCK (in), 30 TDO (out)
part E pins: 13 VCCIO1 (power), 21 VCC (power), 32 VCCIO2 (power), 41 VAUX (power)
part F pins: 10 GND (power), 23 GND (power), 31 GND (power)
part A text: BANK 1
part B text: BANK 2

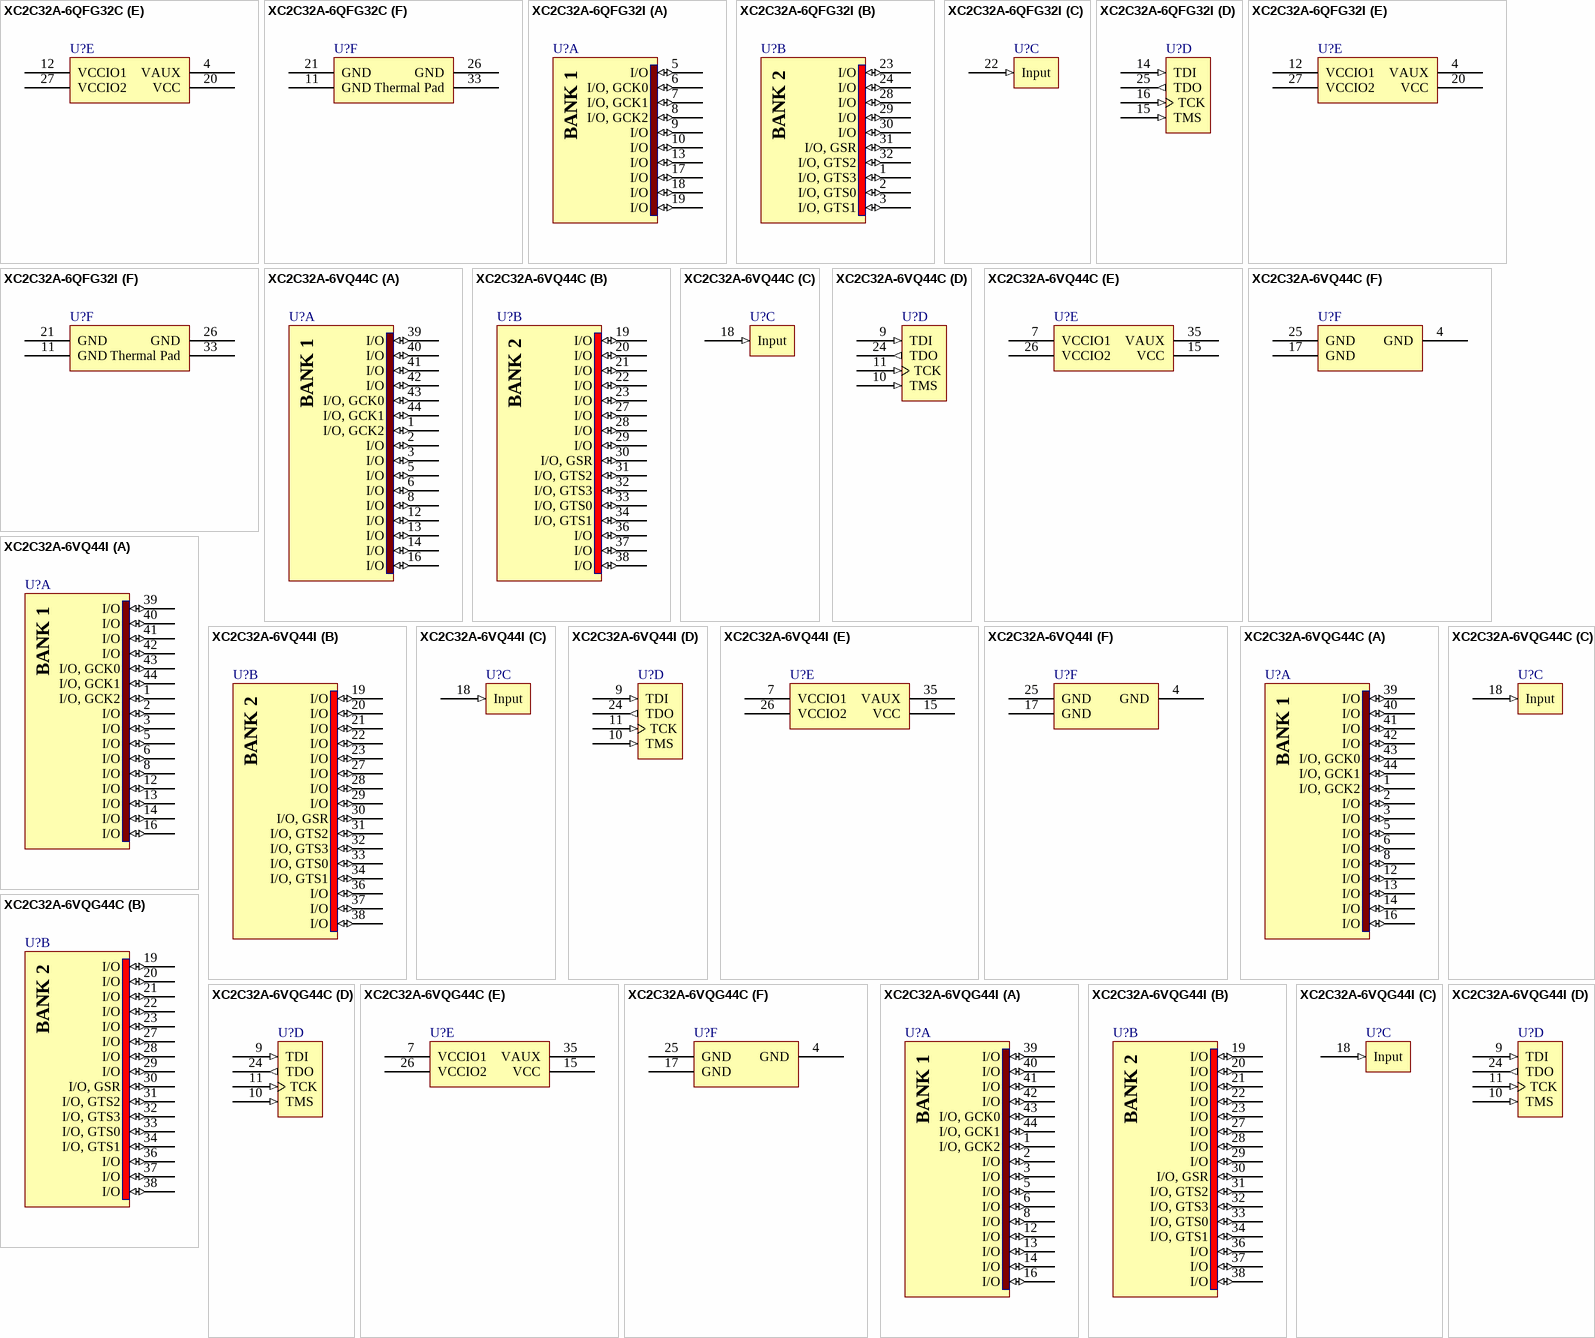
[diagram p6: symbols XC2C32A-6QFG32C to XC2C32A-6VQG44I]

## XC2C32A-6QFG32C
designator U?
CoolRunner-II 1.8V, 32 Macrocell CPLD, 21 User I/Os, 32-Pin QFNL, Commercial Grade, Pb-Free; DatasheetVersion: ver2.1, Nov-2008; PackageVersion: ver1.0, Aug-2004; PackageReference: QFG32; PackageDescription: 32-Pin Quad Flat No-Lead (QFG32) - Pb-Free; Code_JEDEC: MO-220; ComponentLink1Description: Manufacturer URL; ComponentLink1URL: http://www.xilinx.com/; ComponentLink2Description: XC2C32A Datasheet; ComponentLink2URL: http://www.xilinx.com/support/documentation/data_sheets/ds310.pdf; ComponentLink3Description: QFG32 Package Drawing; ComponentLink3URL: http://www.xilinx.com/support/documentation/package_specs/qfg32.pdf; ComponentLink4Description: CoolRunner-II Documents; ComponentLink4URL: http://www.xilinx.com/support/documentation/coolrunner-ii.htm
footprint QFG32_N (QFN, 32-Leads, Body 5x5mm, Pitch 0.5mm, Thermal Pad 3.3x3.3mm, IPC Medium Density)
footprint QFG32_L (QFN, 32-Leads, Body 5x5mm, Pitch 0.5mm, Thermal Pad 3.3x3.3mm, IPC High Density)
footprint QFG32_M (QFN, 32-Leads, Body 5x5mm, Pitch 0.5mm, Thermal Pad 3.3x3.3mm, IPC Low Density)
part A pins: 5 I/O (io), 6 I/O, GCK0 (io), 7 I/O, GCK1 (io), 8 I/O, GCK2 (io), 9 I/O (io), 10 I/O (io), 13 I/O (io), 17 I/O (io), 18 I/O (io), 19 I/O (io)
part B pins: 1 I/O, GTS3 (io), 2 I/O, GTS0 (io), 3 I/O, GTS1 (io), 23 I/O (io), 24 I/O (io), 28 I/O (io), 29 I/O (io), 30 I/O (io), 31 I/O, GSR (io), 32 I/O, GTS2 (io)
part C pins: 22 Input (in)
part D pins: 14 TDI (in), 15 TMS (in), 16 TCK (in), 25 TDO (out)
part E pins: 4 VAUX (power), 12 VCCIO1 (power), 20 VCC (power), 27 VCCIO2 (power)
part F pins: 11 GND (power), 21 GND (power), 26 GND (power), 33 Thermal Pad (power)
part A text: BANK 1
part B text: BANK 2